# Altium schematic symbol library MCU_Microchip_PIC16.SchLib: 258 symbols (part 1 of 4)
Pins are listed as number, name and electrical type; pins without a type are passive.

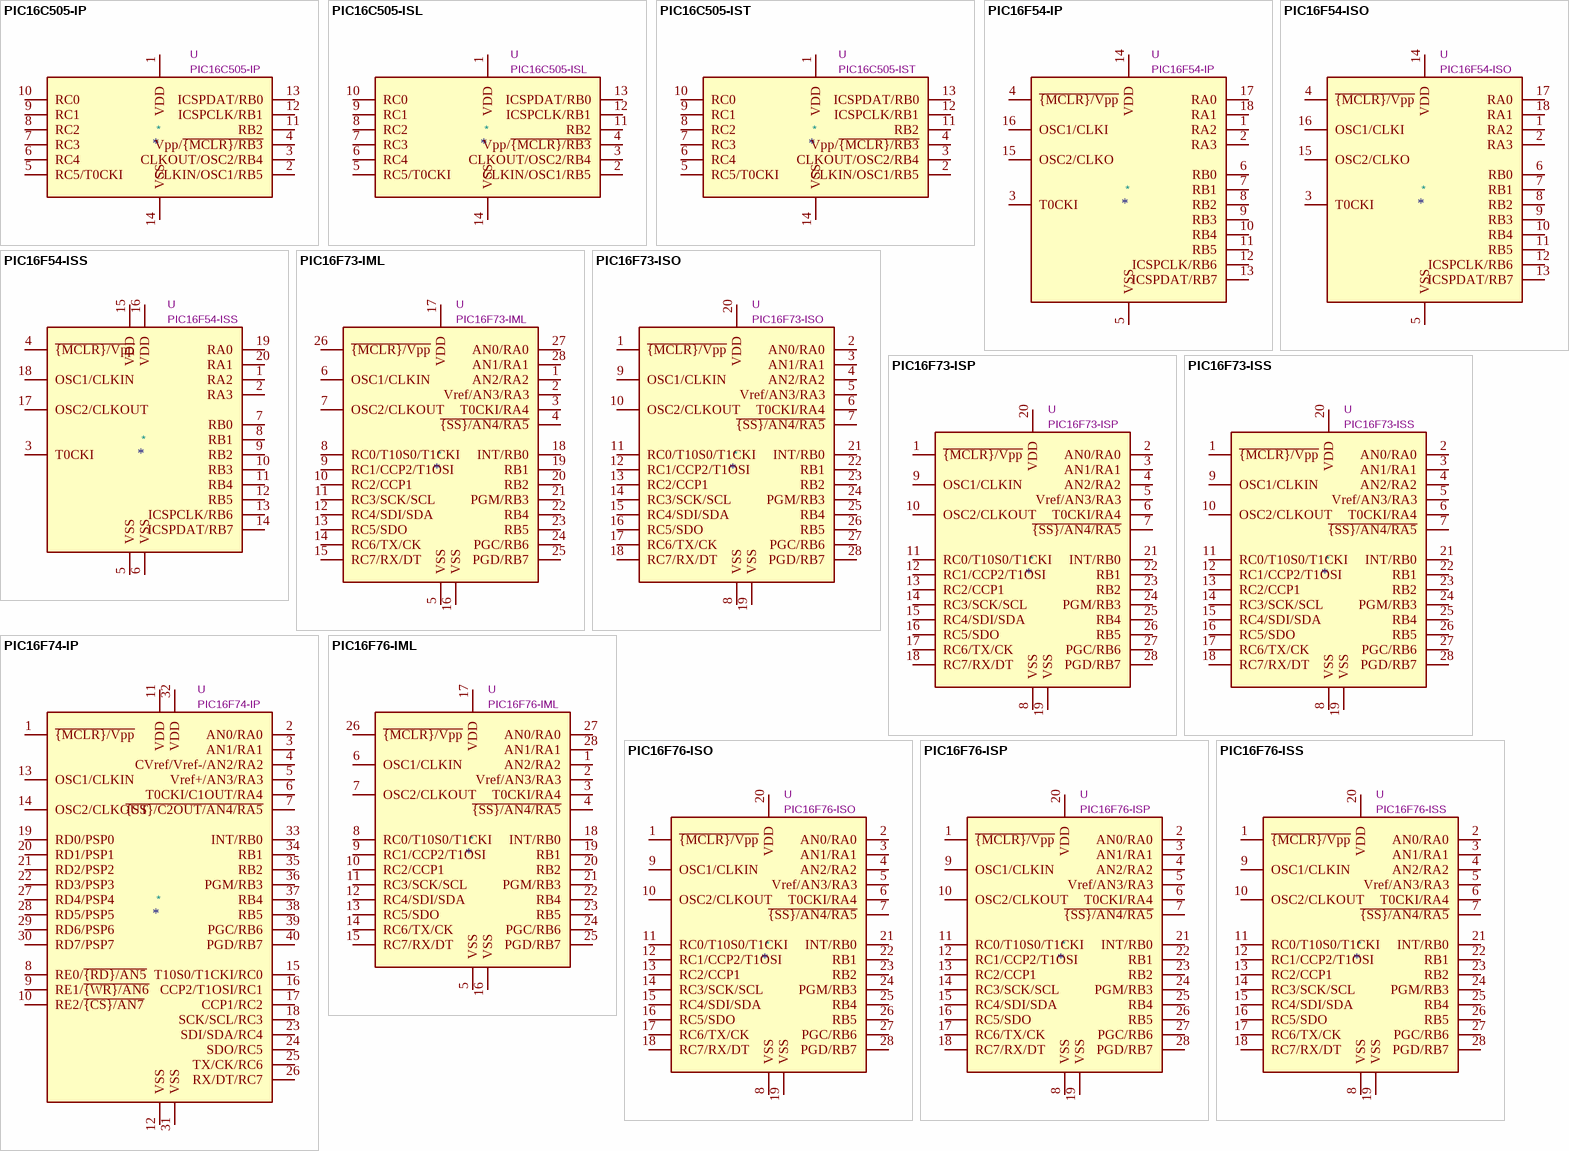
[diagram p0: symbols PIC16C505-IP to PIC16F76-ISS]

## PIC16C505-IP
designator *  value PIC16C505-IP  Reference: U
ki_keywords: ROM-Based 8bit Microcontroller; ki_description: 1024W ROM, 72B SRAM, DIP14; ki_fp_filters: PDIP* DIP*; Datasheet: http://ww1.microchip.com/downloads/en/DeviceDoc/41236E.pdf
pins: 1 VDD, 2 CLKIN/OSC1/RB5, 3 CLKOUT/OSC2/RB4, 4 Vpp/~{{MCLR}/RB3}, 5 RC5/T0CKI, 6 RC4, 7 RC3, 8 RC2, 9 RC1, 10 RC0, 11 RB2, 12 ICSPCLK/RB1, 13 ICSPDAT/RB0, 14 VSS

## PIC16C505-ISL
designator *  value PIC16C505-ISL  Reference: U
ki_keywords: ROM-Based 8bit Microcontroller; ki_description: PIC16C505, 1024W ROM, 72B SRAM, SO14; ki_fp_filters: SO* SOIC*; Datasheet: http://ww1.microchip.com/downloads/en/DeviceDoc/41236E.pdf
pins: 1 VDD, 2 CLKIN/OSC1/RB5, 3 CLKOUT/OSC2/RB4, 4 Vpp/~{{MCLR}/RB3}, 5 RC5/T0CKI, 6 RC4, 7 RC3, 8 RC2, 9 RC1, 10 RC0, 11 RB2, 12 ICSPCLK/RB1, 13 ICSPDAT/RB0, 14 VSS

## PIC16C505-IST
designator *  value PIC16C505-IST  Reference: U
ki_keywords: ROM-Based 8bit Microcontroller; ki_description: PIC16C505, 1024W ROM, 72B SRAM, TSSOP14; ki_fp_filters: TSSOP*; Datasheet: http://ww1.microchip.com/downloads/en/DeviceDoc/41236E.pdf
pins: 1 VDD, 2 CLKIN/OSC1/RB5, 3 CLKOUT/OSC2/RB4, 4 Vpp/~{{MCLR}/RB3}, 5 RC5/T0CKI, 6 RC4, 7 RC3, 8 RC2, 9 RC1, 10 RC0, 11 RB2, 12 ICSPCLK/RB1, 13 ICSPDAT/RB0, 14 VSS

## PIC16F54-IP
designator *  value PIC16F54-IP  Reference: U
ki_keywords: FLASH-Based 8-Bit CMOS Microcontroller; ki_description: 512W FLASH, 25B SRAM, DIP18; ki_fp_filters: DIP* PDIP*; Datasheet: http://ww1.microchip.com/downloads/en/DeviceDoc/41213D.pdf
pins: 1 RA2, 2 RA3, 3 T0CKI, 4 ~{{MCLR}/Vpp}, 5 VSS, 6 RB0, 7 RB1, 8 RB2, 9 RB3, 10 RB4, 11 RB5, 12 ICSPCLK/RB6, 13 ICSPDAT/RB7, 14 VDD, 15 OSC2/CLKO, 16 OSC1/CLKI, 17 RA0, 18 RA1

## PIC16F54-ISO
designator *  value PIC16F54-ISO  Reference: U
ki_keywords: FLASH-Based 8-Bit CMOS Microcontroller; ki_description: PIC16F54, 512W FLASH, 25B SRAM, SO18; ki_fp_filters: SO* SOIC*; Datasheet: http://ww1.microchip.com/downloads/en/DeviceDoc/41213D.pdf
pins: 1 RA2, 2 RA3, 3 T0CKI, 4 ~{{MCLR}/Vpp}, 5 VSS, 6 RB0, 7 RB1, 8 RB2, 9 RB3, 10 RB4, 11 RB5, 12 ICSPCLK/RB6, 13 ICSPDAT/RB7, 14 VDD, 15 OSC2/CLKO, 16 OSC1/CLKI, 17 RA0, 18 RA1

## PIC16F54-ISS
designator *  value PIC16F54-ISS  Reference: U
ki_keywords: FLASH-Based 8-Bit CMOS Microcontroller; ki_description: PIC16F54, 512W FLASH, 25B SRAM, SSOP20; ki_fp_filters: SSOP*; Datasheet: http://ww1.microchip.com/downloads/en/DeviceDoc/41213D.pdf
pins: 1 RA2, 2 RA3, 3 T0CKI, 4 ~{{MCLR}/Vpp}, 5 VSS, 6 VSS, 7 RB0, 8 RB1, 9 RB2, 10 RB3, 11 RB4, 12 RB5, 13 ICSPCLK/RB6, 14 ICSPDAT/RB7, 15 VDD, 16 VDD, 17 OSC2/CLKOUT, 18 OSC1/CLKIN, 19 RA0, 20 RA1

## PIC16F73-IML
designator *  value PIC16F73-IML  Reference: U
ki_keywords: Flash-Based 8-Bit Microcontroller; ki_description: PIC16F73, 4K Flash, 192B SRAM, ADC, PWM, MLF28; ki_fp_filters: MLF*; Datasheet: http://ww1.microchip.com/downloads/en/DeviceDoc/30325b.pdf
pins: 1 AN2/RA2, 2 Vref/AN3/RA3, 3 T0CKI/RA4, 4 ~{{SS}/AN4/RA5}, 5 VSS, 6 OSC1/CLKIN, 7 OSC2/CLKOUT, 8 RC0/T10S0/T1CKI, 9 RC1/CCP2/T1OSI, 10 RC2/CCP1, 11 RC3/SCK/SCL, 12 RC4/SDI/SDA, 13 RC5/SDO, 14 RC6/TX/CK, 15 RC7/RX/DT, 16 VSS, 17 VDD, 18 INT/RB0, 19 RB1, 20 RB2, 21 PGM/RB3, 22 RB4, 23 RB5, 24 PGC/RB6, 25 PGD/RB7, 26 ~{{MCLR}/Vpp}, 27 AN0/RA0, 28 AN1/RA1

## PIC16F73-ISO
designator *  value PIC16F73-ISO  Reference: U
ki_keywords: Flash-Based 8-Bit Microcontroller; ki_description: PIC16F73, 4K Flash, 192B SRAM, ADC, PWM, SOIC28; ki_fp_filters: SO*; Datasheet: http://ww1.microchip.com/downloads/en/DeviceDoc/30325b.pdf
pins: 1 ~{{MCLR}/Vpp}, 2 AN0/RA0, 3 AN1/RA1, 4 AN2/RA2, 5 Vref/AN3/RA3, 6 T0CKI/RA4, 7 ~{{SS}/AN4/RA5}, 8 VSS, 9 OSC1/CLKIN, 10 OSC2/CLKOUT, 11 RC0/T10S0/T1CKI, 12 RC1/CCP2/T1OSI, 13 RC2/CCP1, 14 RC3/SCK/SCL, 15 RC4/SDI/SDA, 16 RC5/SDO, 17 RC6/TX/CK, 18 RC7/RX/DT, 19 VSS, 20 VDD, 21 INT/RB0, 22 RB1, 23 RB2, 24 PGM/RB3, 25 RB4, 26 RB5, 27 PGC/RB6, 28 PGD/RB7

## PIC16F73-ISP
designator *  value PIC16F73-ISP  Reference: U
ki_keywords: Flash-Based 8-Bit Microcontroller; ki_description: PIC16F73, 4K Flash, 192B SRAM, ADC, PWM, SDIP28; ki_fp_filters: DIP* PDIP*; Datasheet: http://ww1.microchip.com/downloads/en/DeviceDoc/30325b.pdf
pins: 1 ~{{MCLR}/Vpp}, 2 AN0/RA0, 3 AN1/RA1, 4 AN2/RA2, 5 Vref/AN3/RA3, 6 T0CKI/RA4, 7 ~{{SS}/AN4/RA5}, 8 VSS, 9 OSC1/CLKIN, 10 OSC2/CLKOUT, 11 RC0/T10S0/T1CKI, 12 RC1/CCP2/T1OSI, 13 RC2/CCP1, 14 RC3/SCK/SCL, 15 RC4/SDI/SDA, 16 RC5/SDO, 17 RC6/TX/CK, 18 RC7/RX/DT, 19 VSS, 20 VDD, 21 INT/RB0, 22 RB1, 23 RB2, 24 PGM/RB3, 25 RB4, 26 RB5, 27 PGC/RB6, 28 PGD/RB7

## PIC16F73-ISS
designator *  value PIC16F73-ISS  Reference: U
ki_keywords: Flash-Based 8-Bit Microcontroller; ki_description: PIC16F73, 4K Flash, 192B SRAM, ADC, PWM, SSOP28; ki_fp_filters: SSOP*; Datasheet: http://ww1.microchip.com/downloads/en/DeviceDoc/30325b.pdf
pins: 1 ~{{MCLR}/Vpp}, 2 AN0/RA0, 3 AN1/RA1, 4 AN2/RA2, 5 Vref/AN3/RA3, 6 T0CKI/RA4, 7 ~{{SS}/AN4/RA5}, 8 VSS, 9 OSC1/CLKIN, 10 OSC2/CLKOUT, 11 RC0/T10S0/T1CKI, 12 RC1/CCP2/T1OSI, 13 RC2/CCP1, 14 RC3/SCK/SCL, 15 RC4/SDI/SDA, 16 RC5/SDO, 17 RC6/TX/CK, 18 RC7/RX/DT, 19 VSS, 20 VDD, 21 INT/RB0, 22 RB1, 23 RB2, 24 PGM/RB3, 25 RB4, 26 RB5, 27 PGC/RB6, 28 PGD/RB7

## PIC16F74-IP
designator *  value PIC16F74-IP  Reference: U
ki_keywords: Flash-Based 8-Bit Microcontroller; ki_description: 4K Flash, 192B SRAM, ADC, PWM, DIP40; ki_fp_filters: DIP* PDIP*; Datasheet: http://ww1.microchip.com/downloads/en/DeviceDoc/30325b.pdf
pins: 1 ~{{MCLR}/Vpp}, 2 AN0/RA0, 3 AN1/RA1, 4 CVref/Vref-/AN2/RA2, 5 Vref+/AN3/RA3, 6 T0CKI/C1OUT/RA4, 7 ~{{SS}/C2OUT/AN4/RA5}, 8 RE0/~{{RD}/AN5}, 9 RE1/~{{WR}/AN6}, 10 RE2/~{{CS}/AN7}, 11 VDD, 12 VSS, 13 OSC1/CLKIN, 14 OSC2/CLKOUT, 15 T10S0/T1CKI/RC0, 16 CCP2/T1OSI/RC1, 17 CCP1/RC2, 18 SCK/SCL/RC3, 19 RD0/PSP0, 20 RD1/PSP1, 21 RD2/PSP2, 22 RD3/PSP3, 23 SDI/SDA/RC4, 24 SDO/RC5, 25 TX/CK/RC6, 26 RX/DT/RC7, 27 RD4/PSP4, 28 RD5/PSP5, 29 RD6/PSP6, 30 RD7/PSP7, 31 VSS, 32 VDD, 33 INT/RB0, 34 RB1, 35 RB2, 36 PGM/RB3, 37 RB4, 38 RB5, 39 PGC/RB6, 40 PGD/RB7

## PIC16F76-IML
designator *  value PIC16F76-IML  Reference: U
ki_keywords: Flash-Based 8-Bit Microcontroller; ki_description: PIC16F76, 8K Flash, 368B SRAM, ADC, PWM, MLF28; ki_fp_filters: MLF*; Datasheet: http://ww1.microchip.com/downloads/en/DeviceDoc/30325b.pdf
pins: 1 AN2/RA2, 2 Vref/AN3/RA3, 3 T0CKI/RA4, 4 ~{{SS}/AN4/RA5}, 5 VSS, 6 OSC1/CLKIN, 7 OSC2/CLKOUT, 8 RC0/T10S0/T1CKI, 9 RC1/CCP2/T1OSI, 10 RC2/CCP1, 11 RC3/SCK/SCL, 12 RC4/SDI/SDA, 13 RC5/SDO, 14 RC6/TX/CK, 15 RC7/RX/DT, 16 VSS, 17 VDD, 18 INT/RB0, 19 RB1, 20 RB2, 21 PGM/RB3, 22 RB4, 23 RB5, 24 PGC/RB6, 25 PGD/RB7, 26 ~{{MCLR}/Vpp}, 27 AN0/RA0, 28 AN1/RA1

## PIC16F76-ISO
designator *  value PIC16F76-ISO  Reference: U
ki_keywords: Flash-Based 8-Bit Microcontroller; ki_description: PIC16F76, 8K Flash, 368B SRAM, ADC, PWM, SOIC28; ki_fp_filters: SO*; Datasheet: http://ww1.microchip.com/downloads/en/DeviceDoc/30325b.pdf
pins: 1 ~{{MCLR}/Vpp}, 2 AN0/RA0, 3 AN1/RA1, 4 AN2/RA2, 5 Vref/AN3/RA3, 6 T0CKI/RA4, 7 ~{{SS}/AN4/RA5}, 8 VSS, 9 OSC1/CLKIN, 10 OSC2/CLKOUT, 11 RC0/T10S0/T1CKI, 12 RC1/CCP2/T1OSI, 13 RC2/CCP1, 14 RC3/SCK/SCL, 15 RC4/SDI/SDA, 16 RC5/SDO, 17 RC6/TX/CK, 18 RC7/RX/DT, 19 VSS, 20 VDD, 21 INT/RB0, 22 RB1, 23 RB2, 24 PGM/RB3, 25 RB4, 26 RB5, 27 PGC/RB6, 28 PGD/RB7

## PIC16F76-ISP
designator *  value PIC16F76-ISP  Reference: U
ki_keywords: Flash-Based 8-Bit Microcontroller; ki_description: PIC16F76, 8K Flash, 368B SRAM, ADC, PWM, SDIP28; ki_fp_filters: DIP* PDIP*; Datasheet: http://ww1.microchip.com/downloads/en/DeviceDoc/30325b.pdf
pins: 1 ~{{MCLR}/Vpp}, 2 AN0/RA0, 3 AN1/RA1, 4 AN2/RA2, 5 Vref/AN3/RA3, 6 T0CKI/RA4, 7 ~{{SS}/AN4/RA5}, 8 VSS, 9 OSC1/CLKIN, 10 OSC2/CLKOUT, 11 RC0/T10S0/T1CKI, 12 RC1/CCP2/T1OSI, 13 RC2/CCP1, 14 RC3/SCK/SCL, 15 RC4/SDI/SDA, 16 RC5/SDO, 17 RC6/TX/CK, 18 RC7/RX/DT, 19 VSS, 20 VDD, 21 INT/RB0, 22 RB1, 23 RB2, 24 PGM/RB3, 25 RB4, 26 RB5, 27 PGC/RB6, 28 PGD/RB7

## PIC16F76-ISS
designator *  value PIC16F76-ISS  Reference: U
ki_keywords: Flash-Based 8-Bit Microcontroller; ki_description: PIC16F76, 8K Flash, 368B SRAM, ADC, PWM, SSOP28; ki_fp_filters: SSOP*; Datasheet: http://ww1.microchip.com/downloads/en/DeviceDoc/30325b.pdf
pins: 1 ~{{MCLR}/Vpp}, 2 AN0/RA0, 3 AN1/RA1, 4 AN2/RA2, 5 Vref/AN3/RA3, 6 T0CKI/RA4, 7 ~{{SS}/AN4/RA5}, 8 VSS, 9 OSC1/CLKIN, 10 OSC2/CLKOUT, 11 RC0/T10S0/T1CKI, 12 RC1/CCP2/T1OSI, 13 RC2/CCP1, 14 RC3/SCK/SCL, 15 RC4/SDI/SDA, 16 RC5/SDO, 17 RC6/TX/CK, 18 RC7/RX/DT, 19 VSS, 20 VDD, 21 INT/RB0, 22 RB1, 23 RB2, 24 PGM/RB3, 25 RB4, 26 RB5, 27 PGC/RB6, 28 PGD/RB7

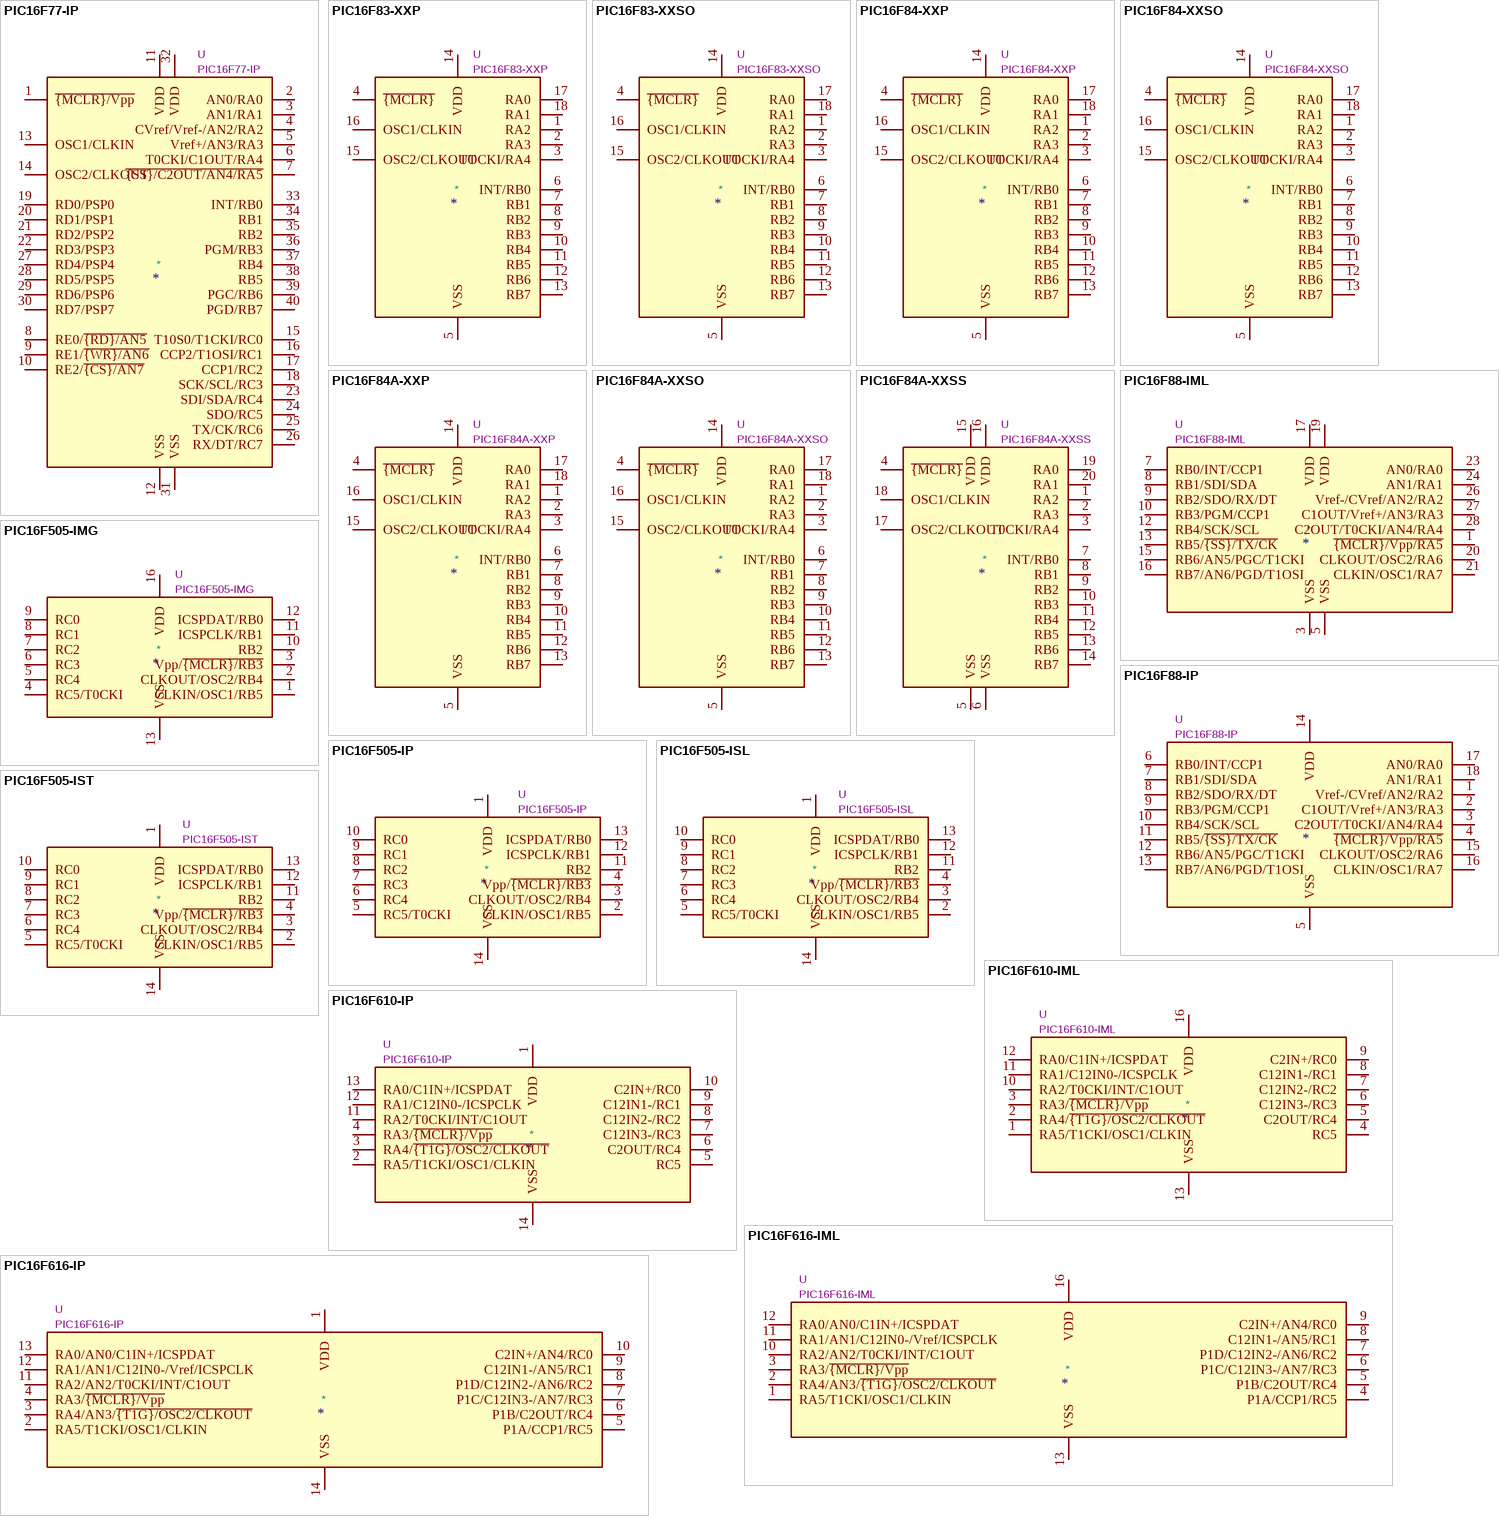
[diagram p1: symbols PIC16F77-IP to PIC16F616-IP]

## PIC16F77-IP
designator *  value PIC16F77-IP  Reference: U
ki_keywords: Flash-Based 8-Bit Microcontroller; ki_description: 8K Flash, 368B SRAM, ADC, PWM, DIP40; ki_fp_filters: DIP* PDIP*; Datasheet: http://ww1.microchip.com/downloads/en/DeviceDoc/30325b.pdf
pins: 1 ~{{MCLR}/Vpp}, 2 AN0/RA0, 3 AN1/RA1, 4 CVref/Vref-/AN2/RA2, 5 Vref+/AN3/RA3, 6 T0CKI/C1OUT/RA4, 7 ~{{SS}/C2OUT/AN4/RA5}, 8 RE0/~{{RD}/AN5}, 9 RE1/~{{WR}/AN6}, 10 RE2/~{{CS}/AN7}, 11 VDD, 12 VSS, 13 OSC1/CLKIN, 14 OSC2/CLKOUT, 15 T10S0/T1CKI/RC0, 16 CCP2/T1OSI/RC1, 17 CCP1/RC2, 18 SCK/SCL/RC3, 19 RD0/PSP0, 20 RD1/PSP1, 21 RD2/PSP2, 22 RD3/PSP3, 23 SDI/SDA/RC4, 24 SDO/RC5, 25 TX/CK/RC6, 26 RX/DT/RC7, 27 RD4/PSP4, 28 RD5/PSP5, 29 RD6/PSP6, 30 RD7/PSP7, 31 VSS, 32 VDD, 33 INT/RB0, 34 RB1, 35 RB2, 36 PGM/RB3, 37 RB4, 38 RB5, 39 PGC/RB6, 40 PGD/RB7

## PIC16F83-XXP
designator *  value PIC16F83-XXP  Reference: U
ki_keywords: Flash-Based 8-Bit Microcontroller; ki_description: PIC16F83, 512B Flash, 36B SRAM, 64B EEPROM, DIP18; ki_fp_filters: DIP* PDIP*; Datasheet: http://ww1.microchip.com/downloads/en/DeviceDoc/30430c.pdf
pins: 1 RA2, 2 RA3, 3 TOCKI/RA4, 4 ~{{MCLR}}, 5 VSS, 6 INT/RB0, 7 RB1, 8 RB2, 9 RB3, 10 RB4, 11 RB5, 12 RB6, 13 RB7, 14 VDD, 15 OSC2/CLKOUT, 16 OSC1/CLKIN, 17 RA0, 18 RA1

## PIC16F83-XXSO
designator *  value PIC16F83-XXSO  Reference: U
ki_keywords: Flash-Based 8-Bit Microcontroller; ki_description: PIC16F83, 512B Flash, 36B SRAM, 64B EEPROM, SOIC18; ki_fp_filters: SO*; Datasheet: http://ww1.microchip.com/downloads/en/DeviceDoc/30430c.pdf
pins: 1 RA2, 2 RA3, 3 TOCKI/RA4, 4 ~{{MCLR}}, 5 VSS, 6 INT/RB0, 7 RB1, 8 RB2, 9 RB3, 10 RB4, 11 RB5, 12 RB6, 13 RB7, 14 VDD, 15 OSC2/CLKOUT, 16 OSC1/CLKIN, 17 RA0, 18 RA1

## PIC16F84-XXP
designator *  value PIC16F84-XXP  Reference: U
ki_keywords: Flash-Based 8-Bit Microcontroller; ki_description: PIC16F84, 1K Flash, 68B SRAM, 64B EEPROM, DIP18; ki_fp_filters: DIP* PDIP*; Datasheet: http://ww1.microchip.com/downloads/en/DeviceDoc/30430c.pdf
pins: 1 RA2, 2 RA3, 3 TOCKI/RA4, 4 ~{{MCLR}}, 5 VSS, 6 INT/RB0, 7 RB1, 8 RB2, 9 RB3, 10 RB4, 11 RB5, 12 RB6, 13 RB7, 14 VDD, 15 OSC2/CLKOUT, 16 OSC1/CLKIN, 17 RA0, 18 RA1

## PIC16F84-XXSO
designator *  value PIC16F84-XXSO  Reference: U
ki_keywords: Flash-Based 8-Bit Microcontroller; ki_description: PIC16F84, 1KB Flash, 68B SRAM, 64B EEPROM, SOIC18; ki_fp_filters: SO*; Datasheet: http://ww1.microchip.com/downloads/en/DeviceDoc/30430c.pdf
pins: 1 RA2, 2 RA3, 3 TOCKI/RA4, 4 ~{{MCLR}}, 5 VSS, 6 INT/RB0, 7 RB1, 8 RB2, 9 RB3, 10 RB4, 11 RB5, 12 RB6, 13 RB7, 14 VDD, 15 OSC2/CLKOUT, 16 OSC1/CLKIN, 17 RA0, 18 RA1

## PIC16F84A-XXP
designator *  value PIC16F84A-XXP  Reference: U
ki_keywords: Flash-Based 8-Bit Microcontroller; ki_description: PIC16F84A, 1K Flash, 68B SRAM, 64B EEPROM, DIP18; ki_fp_filters: DIP* PDIP*; Datasheet: http://ww1.microchip.com/downloads/en/devicedoc/35007b.pdf
pins: 1 RA2, 2 RA3, 3 TOCKI/RA4, 4 ~{{MCLR}}, 5 VSS, 6 INT/RB0, 7 RB1, 8 RB2, 9 RB3, 10 RB4, 11 RB5, 12 RB6, 13 RB7, 14 VDD, 15 OSC2/CLKOUT, 16 OSC1/CLKIN, 17 RA0, 18 RA1

## PIC16F84A-XXSO
designator *  value PIC16F84A-XXSO  Reference: U
ki_keywords: Flash-Based 8-Bit Microcontroller; ki_description: PIC16F84A, 1KB Flash, 68B SRAM, 64B EEPROM, SOIC18; ki_fp_filters: SO*; Datasheet: http://ww1.microchip.com/downloads/en/devicedoc/35007b.pdf
pins: 1 RA2, 2 RA3, 3 TOCKI/RA4, 4 ~{{MCLR}}, 5 VSS, 6 INT/RB0, 7 RB1, 8 RB2, 9 RB3, 10 RB4, 11 RB5, 12 RB6, 13 RB7, 14 VDD, 15 OSC2/CLKOUT, 16 OSC1/CLKIN, 17 RA0, 18 RA1

## PIC16F84A-XXSS
designator *  value PIC16F84A-XXSS  Reference: U
ki_keywords: Flash-Based 8-Bit Microcontroller; ki_description: PIC16F84A, 1KB Flash, 68B SRAM, 64B EEPROM, SSOP18; ki_fp_filters: SSOP*; Datasheet: http://ww1.microchip.com/downloads/en/devicedoc/35007b.pdf
pins: 1 RA2, 2 RA3, 3 T0CKI/RA4, 4 ~{{MCLR}}, 5 VSS, 6 VSS, 7 INT/RB0, 8 RB1, 9 RB2, 10 RB3, 11 RB4, 12 RB5, 13 RB6, 14 RB7, 15 VDD, 16 VDD, 17 OSC2/CLKOUT, 18 OSC1/CLKIN, 19 RA0, 20 RA1

## PIC16F88-IML
designator *  value PIC16F88-IML  Reference: U
ki_keywords: FLASH-Based 8-Bit CMOS Microcontroller; ki_description: PIC16F88, 4096W Flash, 368B SRAM, 256B EEPROM, QFN-28; ki_fp_filters: DIP* PDIP*; Datasheet: http://ww1.microchip.com/downloads/en/DeviceDoc/30487D.pdf
pins: 1 ~{{MCLR}/Vpp/RA5}, 3 VSS, 5 VSS, 7 RB0/INT/CCP1, 8 RB1/SDI/SDA, 9 RB2/SDO/RX/DT, 10 RB3/PGM/CCP1, 12 RB4/SCK/SCL, 13 RB5/~{{SS}/TX/CK}, 15 RB6/AN5/PGC/T1CKI, 16 RB7/AN6/PGD/T1OSI, 17 VDD, 19 VDD, 20 CLKOUT/OSC2/RA6, 21 CLKIN/OSC1/RA7, 23 AN0/RA0, 24 AN1/RA1, 26 Vref-/CVref/AN2/RA2, 27 C1OUT/Vref+/AN3/RA3, 28 C2OUT/T0CKI/AN4/RA4

## PIC16F88-IP
designator *  value PIC16F88-IP  Reference: U
ki_keywords: FLASH-Based 8-Bit CMOS Microcontroller; ki_description: PIC16F88, 4096W Flash, 368B SRAM, 256B EEPROM, DIP18; ki_fp_filters: DIP* PDIP*; Datasheet: http://ww1.microchip.com/downloads/en/DeviceDoc/30487D.pdf
pins: 1 Vref-/CVref/AN2/RA2, 2 C1OUT/Vref+/AN3/RA3, 3 C2OUT/T0CKI/AN4/RA4, 4 ~{{MCLR}/Vpp/RA5}, 5 VSS, 6 RB0/INT/CCP1, 7 RB1/SDI/SDA, 8 RB2/SDO/RX/DT, 9 RB3/PGM/CCP1, 10 RB4/SCK/SCL, 11 RB5/~{{SS}/TX/CK}, 12 RB6/AN5/PGC/T1CKI, 13 RB7/AN6/PGD/T1OSI, 14 VDD, 15 CLKOUT/OSC2/RA6, 16 CLKIN/OSC1/RA7, 17 AN0/RA0, 18 AN1/RA1

## PIC16F505-IMG
designator *  value PIC16F505-IMG  Reference: U
ki_keywords: FLASH-Based 8bit Microcontroller; ki_description: PIC16F505, 1024W FLASH, 72B SRAM, QFN16; ki_fp_filters: QFN*; Datasheet: http://ww1.microchip.com/downloads/en/DeviceDoc/41236E.pdf
pins: 1 CLKIN/OSC1/RB5, 2 CLKOUT/OSC2/RB4, 3 Vpp/~{{MCLR}/RB3}, 4 RC5/T0CKI, 5 RC4, 6 RC3, 7 RC2, 8 RC1, 9 RC0, 10 RB2, 11 ICSPCLK/RB1, 12 ICSPDAT/RB0, 13 VSS, 16 VDD

## PIC16F505-IP
designator *  value PIC16F505-IP  Reference: U
ki_keywords: FLASH-Based 8bit Microcontroller; ki_description: 1024W FLASH, 72B SRAM, DIP14; ki_fp_filters: PDIP* DIP*; Datasheet: http://ww1.microchip.com/downloads/en/DeviceDoc/41236E.pdf
pins: 1 VDD, 2 CLKIN/OSC1/RB5, 3 CLKOUT/OSC2/RB4, 4 Vpp/~{{MCLR}/RB3}, 5 RC5/T0CKI, 6 RC4, 7 RC3, 8 RC2, 9 RC1, 10 RC0, 11 RB2, 12 ICSPCLK/RB1, 13 ICSPDAT/RB0, 14 VSS

## PIC16F505-ISL
designator *  value PIC16F505-ISL  Reference: U
ki_keywords: FLASH-Based 8bit Microcontroller; ki_description: PIC16F505, 1024W FLASH, 72B SRAM, SO14; ki_fp_filters: SO* SOIC*; Datasheet: http://ww1.microchip.com/downloads/en/DeviceDoc/41236E.pdf
pins: 1 VDD, 2 CLKIN/OSC1/RB5, 3 CLKOUT/OSC2/RB4, 4 Vpp/~{{MCLR}/RB3}, 5 RC5/T0CKI, 6 RC4, 7 RC3, 8 RC2, 9 RC1, 10 RC0, 11 RB2, 12 ICSPCLK/RB1, 13 ICSPDAT/RB0, 14 VSS

## PIC16F505-IST
designator *  value PIC16F505-IST  Reference: U
ki_keywords: FLASH-Based 8bit Microcontroller; ki_description: PIC16F505, 1024W FLASH, 72B SRAM, TSSOP14; ki_fp_filters: TSSOP*; Datasheet: http://ww1.microchip.com/downloads/en/DeviceDoc/41236E.pdf
pins: 1 VDD, 2 CLKIN/OSC1/RB5, 3 CLKOUT/OSC2/RB4, 4 Vpp/~{{MCLR}/RB3}, 5 RC5/T0CKI, 6 RC4, 7 RC3, 8 RC2, 9 RC1, 10 RC0, 11 RB2, 12 ICSPCLK/RB1, 13 ICSPDAT/RB0, 14 VSS

## PIC16F610-IML
designator *  value PIC16F610-IML  Reference: U
ki_keywords: FLASH-Based 8-Bit CMOS Microcontroller Low Power; ki_description: PIC16F610, 1024W FLASH, 64B SRAM, QFN-16; ki_fp_filters: QFN*; Datasheet: http://ww1.microchip.com/downloads/en/DeviceDoc/41288F.pdf
pins: 1 RA5/T1CKI/OSC1/CLKIN, 2 RA4/~{{T1G}/OSC2/CLKOUT}, 3 RA3/~{{MCLR}/Vpp}, 4 RC5, 5 C2OUT/RC4, 6 C12IN3-/RC3, 7 C12IN2-/RC2, 8 C12IN1-/RC1, 9 C2IN+/RC0, 10 RA2/T0CKI/INT/C1OUT, 11 RA1/C12IN0-/ICSPCLK, 12 RA0/C1IN+/ICSPDAT, 13 VSS, 16 VDD

## PIC16F610-IP
designator *  value PIC16F610-IP  Reference: U
ki_keywords: FLASH-Based 8-Bit CMOS Microcontroller Low Power; ki_description: 1024W FLASH, 64B SRAM, PDIP-14; ki_fp_filters: DIP* PDIP* SO*; Datasheet: http://ww1.microchip.com/downloads/en/DeviceDoc/41288F.pdf
pins: 1 VDD, 2 RA5/T1CKI/OSC1/CLKIN, 3 RA4/~{{T1G}/OSC2/CLKOUT}, 4 RA3/~{{MCLR}/Vpp}, 5 RC5, 6 C2OUT/RC4, 7 C12IN3-/RC3, 8 C12IN2-/RC2, 9 C12IN1-/RC1, 10 C2IN+/RC0, 11 RA2/T0CKI/INT/C1OUT, 12 RA1/C12IN0-/ICSPCLK, 13 RA0/C1IN+/ICSPDAT, 14 VSS

## PIC16F616-IML
designator *  value PIC16F616-IML  Reference: U
ki_keywords: FLASH-Based 8-Bit CMOS Microcontroller Low Power; ki_description: PIC16F616, 2048W FLASH, 128B SRAM, QFN-16; ki_fp_filters: QFN*; Datasheet: http://ww1.microchip.com/downloads/en/DeviceDoc/41288F.pdf
pins: 1 RA5/T1CKI/OSC1/CLKIN, 2 RA4/AN3/~{{T1G}/OSC2/CLKOUT}, 3 RA3/~{{MCLR}/Vpp}, 4 P1A/CCP1/RC5, 5 P1B/C2OUT/RC4, 6 P1C/C12IN3-/AN7/RC3, 7 P1D/C12IN2-/AN6/RC2, 8 C12IN1-/AN5/RC1, 9 C2IN+/AN4/RC0, 10 RA2/AN2/T0CKI/INT/C1OUT, 11 RA1/AN1/C12IN0-/Vref/ICSPCLK, 12 RA0/AN0/C1IN+/ICSPDAT, 13 VSS, 16 VDD

## PIC16F616-IP
designator *  value PIC16F616-IP  Reference: U
ki_keywords: FLASH-Based 8-Bit CMOS Microcontroller Low Power; ki_description: 2048W FLASH, 128B SRAM, PDIP-14; ki_fp_filters: DIP* PDIP* SO*; Datasheet: http://ww1.microchip.com/downloads/en/DeviceDoc/41288F.pdf
pins: 1 VDD, 2 RA5/T1CKI/OSC1/CLKIN, 3 RA4/AN3/~{{T1G}/OSC2/CLKOUT}, 4 RA3/~{{MCLR}/Vpp}, 5 P1A/CCP1/RC5, 6 P1B/C2OUT/RC4, 7 P1C/C12IN3-/AN7/RC3, 8 P1D/C12IN2-/AN6/RC2, 9 C12IN1-/AN5/RC1, 10 C2IN+/AN4/RC0, 11 RA2/AN2/T0CKI/INT/C1OUT, 12 RA1/AN1/C12IN0-/Vref/ICSPCLK, 13 RA0/AN0/C1IN+/ICSPDAT, 14 VSS

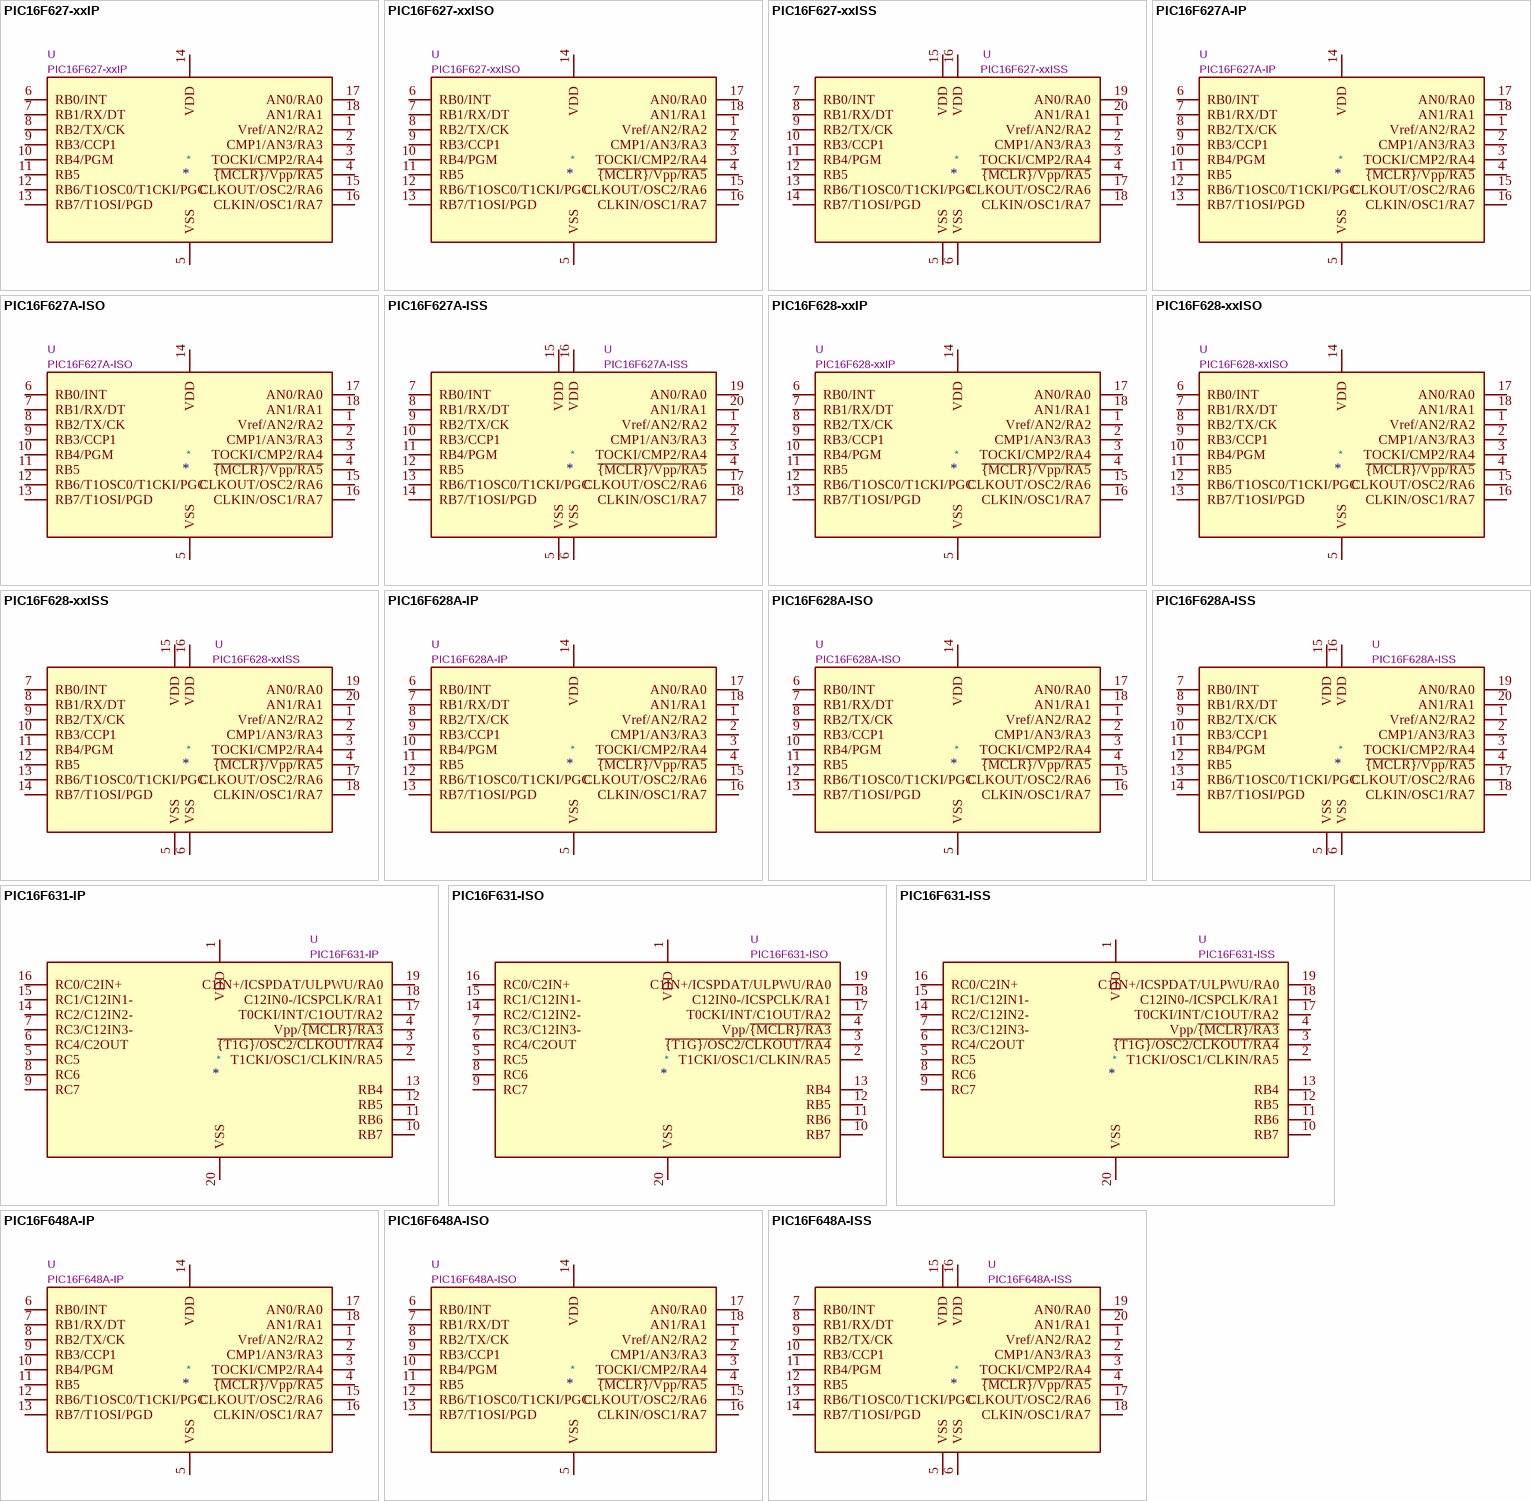
[diagram p2: symbols PIC16F627-xxIP to PIC16F648A-ISS]

## PIC16F627-xxIP
designator *  value PIC16F627-xxIP  Reference: U
ki_keywords: FLASH-Based 8-Bit CMOS Microcontroller; ki_description: 1024W Flash, 224B SRAM, 128B EEPROM, DIP18; ki_fp_filters: DIP* PDIP*; Datasheet: http://ww1.microchip.com/downloads/en/DeviceDoc/40300c.pdf
pins: 1 Vref/AN2/RA2, 2 CMP1/AN3/RA3, 3 TOCKI/CMP2/RA4, 4 ~{{MCLR}/Vpp/RA5}, 5 VSS, 6 RB0/INT, 7 RB1/RX/DT, 8 RB2/TX/CK, 9 RB3/CCP1, 10 RB4/PGM, 11 RB5, 12 RB6/T1OSC0/T1CKI/PGC, 13 RB7/T1OSI/PGD, 14 VDD, 15 CLKOUT/OSC2/RA6, 16 CLKIN/OSC1/RA7, 17 AN0/RA0, 18 AN1/RA1

## PIC16F627-xxISO
designator *  value PIC16F627-xxISO  Reference: U
ki_keywords: FLASH-Based 8-Bit CMOS Microcontroller; ki_description: 1024W Flash, 224B SRAM, 128B EEPROM, SO18; ki_fp_filters: SO*; Datasheet: http://ww1.microchip.com/downloads/en/DeviceDoc/40300c.pdf
pins: 1 Vref/AN2/RA2, 2 CMP1/AN3/RA3, 3 TOCKI/CMP2/RA4, 4 ~{{MCLR}/Vpp/RA5}, 5 VSS, 6 RB0/INT, 7 RB1/RX/DT, 8 RB2/TX/CK, 9 RB3/CCP1, 10 RB4/PGM, 11 RB5, 12 RB6/T1OSC0/T1CKI/PGC, 13 RB7/T1OSI/PGD, 14 VDD, 15 CLKOUT/OSC2/RA6, 16 CLKIN/OSC1/RA7, 17 AN0/RA0, 18 AN1/RA1

## PIC16F627-xxISS
designator *  value PIC16F627-xxISS  Reference: U
ki_keywords: FLASH-Based 8-Bit CMOS Microcontroller; ki_description: 1024W Flash, 224B SRAM, 128B EEPROM, SSOP20; ki_fp_filters: SSOP*; Datasheet: http://ww1.microchip.com/downloads/en/DeviceDoc/40300c.pdf
pins: 1 Vref/AN2/RA2, 2 CMP1/AN3/RA3, 3 TOCKI/CMP2/RA4, 4 ~{{MCLR}/Vpp/RA5}, 5 VSS, 6 VSS, 7 RB0/INT, 8 RB1/RX/DT, 9 RB2/TX/CK, 10 RB3/CCP1, 11 RB4/PGM, 12 RB5, 13 RB6/T1OSC0/T1CKI/PGC, 14 RB7/T1OSI/PGD, 15 VDD, 16 VDD, 17 CLKOUT/OSC2/RA6, 18 CLKIN/OSC1/RA7, 19 AN0/RA0, 20 AN1/RA1

## PIC16F627A-IP
designator *  value PIC16F627A-IP  Reference: U
ki_keywords: FLASH-Based 8-Bit CMOS Microcontroller; ki_description: 1024W Flash, 224B SRAM, 128B EEPROM, DIP18; ki_fp_filters: DIP* PDIP*; Datasheet: http://ww1.microchip.com/downloads/en/DeviceDoc/40300c.pdf
pins: 1 Vref/AN2/RA2, 2 CMP1/AN3/RA3, 3 TOCKI/CMP2/RA4, 4 ~{{MCLR}/Vpp/RA5}, 5 VSS, 6 RB0/INT, 7 RB1/RX/DT, 8 RB2/TX/CK, 9 RB3/CCP1, 10 RB4/PGM, 11 RB5, 12 RB6/T1OSC0/T1CKI/PGC, 13 RB7/T1OSI/PGD, 14 VDD, 15 CLKOUT/OSC2/RA6, 16 CLKIN/OSC1/RA7, 17 AN0/RA0, 18 AN1/RA1

## PIC16F627A-ISO
designator *  value PIC16F627A-ISO  Reference: U
ki_keywords: FLASH-Based 8-Bit CMOS Microcontroller; ki_description: PIC16F627A, 1024W Flash, 224B SRAM, 128B EEPROM, SO18; ki_fp_filters: SO*; Datasheet: http://ww1.microchip.com/downloads/en/DeviceDoc/40300c.pdf
pins: 1 Vref/AN2/RA2, 2 CMP1/AN3/RA3, 3 TOCKI/CMP2/RA4, 4 ~{{MCLR}/Vpp/RA5}, 5 VSS, 6 RB0/INT, 7 RB1/RX/DT, 8 RB2/TX/CK, 9 RB3/CCP1, 10 RB4/PGM, 11 RB5, 12 RB6/T1OSC0/T1CKI/PGC, 13 RB7/T1OSI/PGD, 14 VDD, 15 CLKOUT/OSC2/RA6, 16 CLKIN/OSC1/RA7, 17 AN0/RA0, 18 AN1/RA1

## PIC16F627A-ISS
designator *  value PIC16F627A-ISS  Reference: U
ki_keywords: FLASH-Based 8-Bit CMOS Microcontroller; ki_description: PIC16F627A, 1024W Flash, 224B SRAM, 128B EEPROM, SSOP20; ki_fp_filters: SSOP*; Datasheet: http://ww1.microchip.com/downloads/en/DeviceDoc/40044G.pdf
pins: 1 Vref/AN2/RA2, 2 CMP1/AN3/RA3, 3 TOCKI/CMP2/RA4, 4 ~{{MCLR}/Vpp/RA5}, 5 VSS, 6 VSS, 7 RB0/INT, 8 RB1/RX/DT, 9 RB2/TX/CK, 10 RB3/CCP1, 11 RB4/PGM, 12 RB5, 13 RB6/T1OSC0/T1CKI/PGC, 14 RB7/T1OSI/PGD, 15 VDD, 16 VDD, 17 CLKOUT/OSC2/RA6, 18 CLKIN/OSC1/RA7, 19 AN0/RA0, 20 AN1/RA1

## PIC16F628-xxIP
designator *  value PIC16F628-xxIP  Reference: U
ki_keywords: FLASH-Based 8-Bit CMOS Microcontroller; ki_description: 2048W Flash, 224B SRAM, 128B EEPROM, DIP18; ki_fp_filters: DIP* PDIP*; Datasheet: http://ww1.microchip.com/downloads/en/DeviceDoc/40300c.pdf
pins: 1 Vref/AN2/RA2, 2 CMP1/AN3/RA3, 3 TOCKI/CMP2/RA4, 4 ~{{MCLR}/Vpp/RA5}, 5 VSS, 6 RB0/INT, 7 RB1/RX/DT, 8 RB2/TX/CK, 9 RB3/CCP1, 10 RB4/PGM, 11 RB5, 12 RB6/T1OSC0/T1CKI/PGC, 13 RB7/T1OSI/PGD, 14 VDD, 15 CLKOUT/OSC2/RA6, 16 CLKIN/OSC1/RA7, 17 AN0/RA0, 18 AN1/RA1

## PIC16F628-xxISO
designator *  value PIC16F628-xxISO  Reference: U
ki_keywords: FLASH-Based 8-Bit CMOS Microcontroller; ki_description: 2048W Flash, 224B SRAM, 128B EEPROM, SO18; ki_fp_filters: SO*; Datasheet: http://ww1.microchip.com/downloads/en/DeviceDoc/40300c.pdf
pins: 1 Vref/AN2/RA2, 2 CMP1/AN3/RA3, 3 TOCKI/CMP2/RA4, 4 ~{{MCLR}/Vpp/RA5}, 5 VSS, 6 RB0/INT, 7 RB1/RX/DT, 8 RB2/TX/CK, 9 RB3/CCP1, 10 RB4/PGM, 11 RB5, 12 RB6/T1OSC0/T1CKI/PGC, 13 RB7/T1OSI/PGD, 14 VDD, 15 CLKOUT/OSC2/RA6, 16 CLKIN/OSC1/RA7, 17 AN0/RA0, 18 AN1/RA1

## PIC16F628-xxISS
designator *  value PIC16F628-xxISS  Reference: U
ki_keywords: FLASH-Based 8-Bit CMOS Microcontroller; ki_description: 2048W Flash, 224B SRAM, 128B EEPROM, SSOP20; ki_fp_filters: SSOP*; Datasheet: http://ww1.microchip.com/downloads/en/DeviceDoc/40300c.pdf
pins: 1 Vref/AN2/RA2, 2 CMP1/AN3/RA3, 3 TOCKI/CMP2/RA4, 4 ~{{MCLR}/Vpp/RA5}, 5 VSS, 6 VSS, 7 RB0/INT, 8 RB1/RX/DT, 9 RB2/TX/CK, 10 RB3/CCP1, 11 RB4/PGM, 12 RB5, 13 RB6/T1OSC0/T1CKI/PGC, 14 RB7/T1OSI/PGD, 15 VDD, 16 VDD, 17 CLKOUT/OSC2/RA6, 18 CLKIN/OSC1/RA7, 19 AN0/RA0, 20 AN1/RA1

## PIC16F628A-IP
designator *  value PIC16F628A-IP  Reference: U
ki_keywords: FLASH-Based 8-Bit CMOS Microcontroller; ki_description: 2048W Flash, 224B SRAM, 128B EEPROM, DIP18; ki_fp_filters: DIP* PDIP*; Datasheet: http://ww1.microchip.com/downloads/en/DeviceDoc/40300c.pdf
pins: 1 Vref/AN2/RA2, 2 CMP1/AN3/RA3, 3 TOCKI/CMP2/RA4, 4 ~{{MCLR}/Vpp/RA5}, 5 VSS, 6 RB0/INT, 7 RB1/RX/DT, 8 RB2/TX/CK, 9 RB3/CCP1, 10 RB4/PGM, 11 RB5, 12 RB6/T1OSC0/T1CKI/PGC, 13 RB7/T1OSI/PGD, 14 VDD, 15 CLKOUT/OSC2/RA6, 16 CLKIN/OSC1/RA7, 17 AN0/RA0, 18 AN1/RA1

## PIC16F628A-ISO
designator *  value PIC16F628A-ISO  Reference: U
ki_keywords: FLASH-Based 8-Bit CMOS Microcontroller; ki_description: PIC16F628A, 2048W Flash, 224B SRAM, 128B EEPROM, SO18; ki_fp_filters: SO*; Datasheet: http://ww1.microchip.com/downloads/en/DeviceDoc/40300c.pdf
pins: 1 Vref/AN2/RA2, 2 CMP1/AN3/RA3, 3 TOCKI/CMP2/RA4, 4 ~{{MCLR}/Vpp/RA5}, 5 VSS, 6 RB0/INT, 7 RB1/RX/DT, 8 RB2/TX/CK, 9 RB3/CCP1, 10 RB4/PGM, 11 RB5, 12 RB6/T1OSC0/T1CKI/PGC, 13 RB7/T1OSI/PGD, 14 VDD, 15 CLKOUT/OSC2/RA6, 16 CLKIN/OSC1/RA7, 17 AN0/RA0, 18 AN1/RA1

## PIC16F628A-ISS
designator *  value PIC16F628A-ISS  Reference: U
ki_keywords: FLASH-Based 8-Bit CMOS Microcontroller; ki_description: PIC16F628A, 2048W Flash, 224B SRAM, 128B EEPROM, SSOP20; ki_fp_filters: SSOP*; Datasheet: http://ww1.microchip.com/downloads/en/DeviceDoc/40044G.pdf
pins: 1 Vref/AN2/RA2, 2 CMP1/AN3/RA3, 3 TOCKI/CMP2/RA4, 4 ~{{MCLR}/Vpp/RA5}, 5 VSS, 6 VSS, 7 RB0/INT, 8 RB1/RX/DT, 9 RB2/TX/CK, 10 RB3/CCP1, 11 RB4/PGM, 12 RB5, 13 RB6/T1OSC0/T1CKI/PGC, 14 RB7/T1OSI/PGD, 15 VDD, 16 VDD, 17 CLKOUT/OSC2/RA6, 18 CLKIN/OSC1/RA7, 19 AN0/RA0, 20 AN1/RA1

## PIC16F631-IP
designator *  value PIC16F631-IP  Reference: U
ki_keywords: Flash-Based 8-Bit CMOS Microcontroller nanoWatt; ki_description: 1024W Flash, 64B SRAM, 128B EEPROM, DIP20; ki_fp_filters: DIP* PDIP*; Datasheet: http://ww1.microchip.com/downloads/en/DeviceDoc/41262E.pdf
pins: 1 VDD, 2 T1CKI/OSC1/CLKIN/RA5, 3 ~{{T1G}/OSC2/CLKOUT/RA4}, 4 Vpp/~{{MCLR}/RA3}, 5 RC5, 6 RC4/C2OUT, 7 RC3/C12IN3-, 8 RC6, 9 RC7, 10 RB7, 11 RB6, 12 RB5, 13 RB4, 14 RC2/C12IN2-, 15 RC1/C12IN1-, 16 RC0/C2IN+, 17 T0CKI/INT/C1OUT/RA2, 18 C12IN0-/ICSPCLK/RA1, 19 C1IN+/ICSPDAT/ULPWU/RA0, 20 VSS

## PIC16F631-ISO
designator *  value PIC16F631-ISO  Reference: U
ki_keywords: Flash-Based 8-Bit CMOS Microcontroller nanoWatt; ki_description: PIC16F631, 1024W Flash, 64B SRAM, 128B EEPROM, SO20; ki_fp_filters: SO*; Datasheet: http://ww1.microchip.com/downloads/en/DeviceDoc/41262E.pdf
pins: 1 VDD, 2 T1CKI/OSC1/CLKIN/RA5, 3 ~{{T1G}/OSC2/CLKOUT/RA4}, 4 Vpp/~{{MCLR}/RA3}, 5 RC5, 6 RC4/C2OUT, 7 RC3/C12IN3-, 8 RC6, 9 RC7, 10 RB7, 11 RB6, 12 RB5, 13 RB4, 14 RC2/C12IN2-, 15 RC1/C12IN1-, 16 RC0/C2IN+, 17 T0CKI/INT/C1OUT/RA2, 18 C12IN0-/ICSPCLK/RA1, 19 C1IN+/ICSPDAT/ULPWU/RA0, 20 VSS

## PIC16F631-ISS
designator *  value PIC16F631-ISS  Reference: U
ki_keywords: Flash-Based 8-Bit CMOS Microcontroller nanoWatt; ki_description: PIC16F631, 1024W Flash, 64B SRAM, 128B EEPROM, SSOP20; ki_fp_filters: SSOP*; Datasheet: http://ww1.microchip.com/downloads/en/DeviceDoc/41262E.pdf
pins: 1 VDD, 2 T1CKI/OSC1/CLKIN/RA5, 3 ~{{T1G}/OSC2/CLKOUT/RA4}, 4 Vpp/~{{MCLR}/RA3}, 5 RC5, 6 RC4/C2OUT, 7 RC3/C12IN3-, 8 RC6, 9 RC7, 10 RB7, 11 RB6, 12 RB5, 13 RB4, 14 RC2/C12IN2-, 15 RC1/C12IN1-, 16 RC0/C2IN+, 17 T0CKI/INT/C1OUT/RA2, 18 C12IN0-/ICSPCLK/RA1, 19 C1IN+/ICSPDAT/ULPWU/RA0, 20 VSS

## PIC16F648A-IP
designator *  value PIC16F648A-IP  Reference: U
ki_keywords: FLASH-Based 8-Bit CMOS Microcontroller; ki_description: 4096W Flash, 256B SRAM, 256B EEPROM, DIP18; ki_fp_filters: DIP* PDIP*; Datasheet: http://ww1.microchip.com/downloads/en/DeviceDoc/40300c.pdf
pins: 1 Vref/AN2/RA2, 2 CMP1/AN3/RA3, 3 TOCKI/CMP2/RA4, 4 ~{{MCLR}/Vpp/RA5}, 5 VSS, 6 RB0/INT, 7 RB1/RX/DT, 8 RB2/TX/CK, 9 RB3/CCP1, 10 RB4/PGM, 11 RB5, 12 RB6/T1OSC0/T1CKI/PGC, 13 RB7/T1OSI/PGD, 14 VDD, 15 CLKOUT/OSC2/RA6, 16 CLKIN/OSC1/RA7, 17 AN0/RA0, 18 AN1/RA1

## PIC16F648A-ISO
designator *  value PIC16F648A-ISO  Reference: U
ki_keywords: FLASH-Based 8-Bit CMOS Microcontroller; ki_description: PIC16F648A, 4096W Flash, 256B SRAM, 256B EEPROM, SO18; ki_fp_filters: SO*; Datasheet: http://ww1.microchip.com/downloads/en/DeviceDoc/40300c.pdf
pins: 1 Vref/AN2/RA2, 2 CMP1/AN3/RA3, 3 TOCKI/CMP2/RA4, 4 ~{{MCLR}/Vpp/RA5}, 5 VSS, 6 RB0/INT, 7 RB1/RX/DT, 8 RB2/TX/CK, 9 RB3/CCP1, 10 RB4/PGM, 11 RB5, 12 RB6/T1OSC0/T1CKI/PGC, 13 RB7/T1OSI/PGD, 14 VDD, 15 CLKOUT/OSC2/RA6, 16 CLKIN/OSC1/RA7, 17 AN0/RA0, 18 AN1/RA1

## PIC16F648A-ISS
designator *  value PIC16F648A-ISS  Reference: U
ki_keywords: FLASH-Based 8-Bit CMOS Microcontroller; ki_description: PIC16F648A, 4096W Flash, 256B SRAM, 256B EEPROM, SSOP20; ki_fp_filters: SSOP*; Datasheet: http://ww1.microchip.com/downloads/en/DeviceDoc/40044G.pdf
pins: 1 Vref/AN2/RA2, 2 CMP1/AN3/RA3, 3 TOCKI/CMP2/RA4, 4 ~{{MCLR}/Vpp/RA5}, 5 VSS, 6 VSS, 7 RB0/INT, 8 RB1/RX/DT, 9 RB2/TX/CK, 10 RB3/CCP1, 11 RB4/PGM, 12 RB5, 13 RB6/T1OSC0/T1CKI/PGC, 14 RB7/T1OSI/PGD, 15 VDD, 16 VDD, 17 CLKOUT/OSC2/RA6, 18 CLKIN/OSC1/RA7, 19 AN0/RA0, 20 AN1/RA1

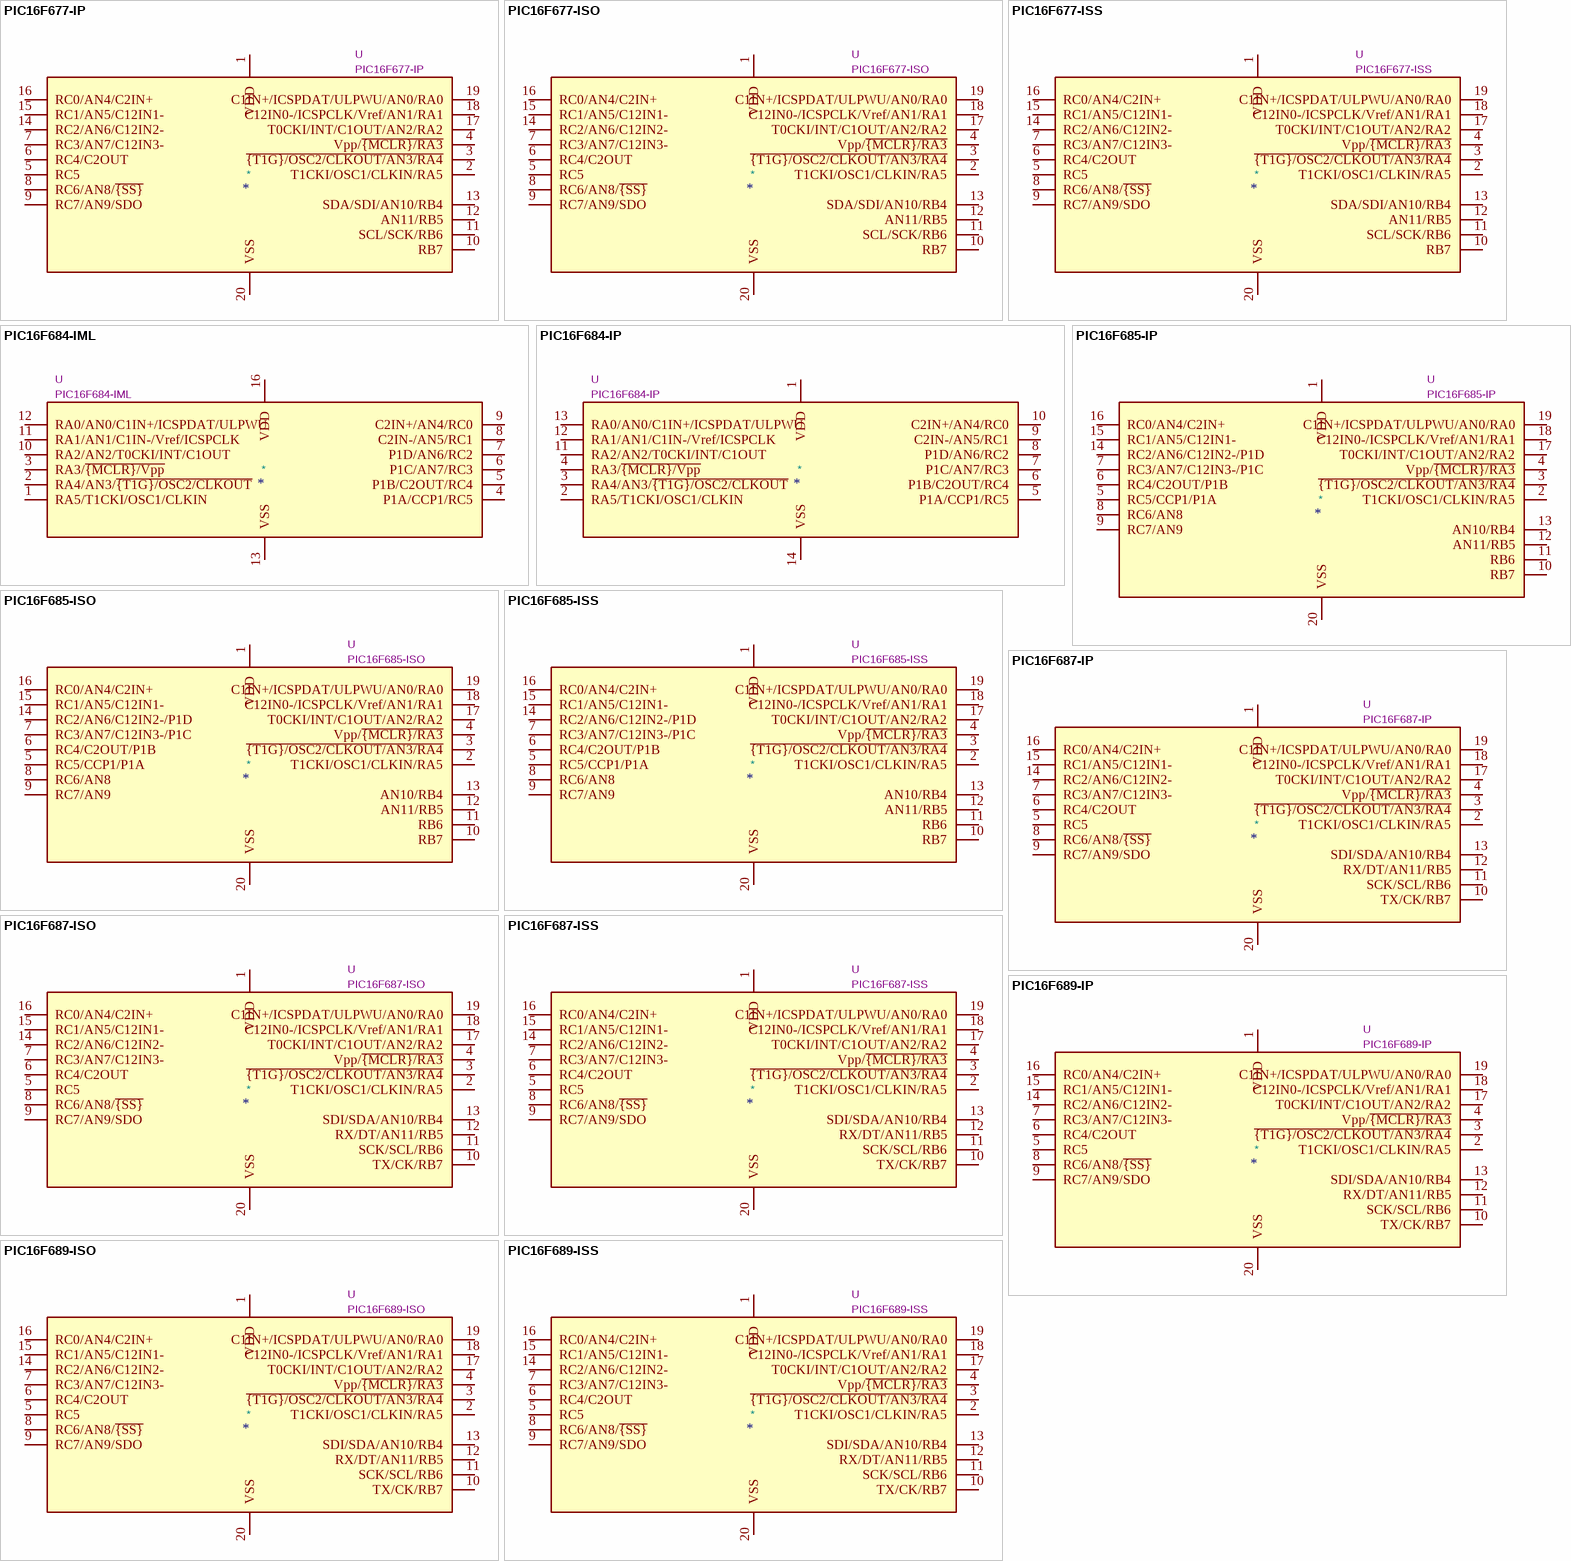
[diagram p3: symbols PIC16F677-IP to PIC16F689-ISS]

## PIC16F677-IP
designator *  value PIC16F677-IP  Reference: U
ki_keywords: Flash-Based 8-Bit CMOS Microcontroller nanoWatt; ki_description: 2048W Flash, 128B SRAM, 128B EEPROM, DIP20; ki_fp_filters: DIP* PDIP*; Datasheet: http://ww1.microchip.com/downloads/en/DeviceDoc/41262E.pdf
pins: 1 VDD, 2 T1CKI/OSC1/CLKIN/RA5, 3 ~{{T1G}/OSC2/CLKOUT/AN3/RA4}, 4 Vpp/~{{MCLR}/RA3}, 5 RC5, 6 RC4/C2OUT, 7 RC3/AN7/C12IN3-, 8 RC6/AN8/~{{SS}}, 9 RC7/AN9/SDO, 10 RB7, 11 SCL/SCK/RB6, 12 AN11/RB5, 13 SDA/SDI/AN10/RB4, 14 RC2/AN6/C12IN2-, 15 RC1/AN5/C12IN1-, 16 RC0/AN4/C2IN+, 17 T0CKI/INT/C1OUT/AN2/RA2, 18 C12IN0-/ICSPCLK/Vref/AN1/RA1, 19 C1IN+/ICSPDAT/ULPWU/AN0/RA0, 20 VSS

## PIC16F677-ISO
designator *  value PIC16F677-ISO  Reference: U
ki_keywords: Flash-Based 8-Bit CMOS Microcontroller nanoWatt; ki_description: PIC16F677, 2048W Flash, 128B SRAM, 128B EEPROM, SO20; ki_fp_filters: SO*; Datasheet: http://ww1.microchip.com/downloads/en/DeviceDoc/41262E.pdf
pins: 1 VDD, 2 T1CKI/OSC1/CLKIN/RA5, 3 ~{{T1G}/OSC2/CLKOUT/AN3/RA4}, 4 Vpp/~{{MCLR}/RA3}, 5 RC5, 6 RC4/C2OUT, 7 RC3/AN7/C12IN3-, 8 RC6/AN8/~{{SS}}, 9 RC7/AN9/SDO, 10 RB7, 11 SCL/SCK/RB6, 12 AN11/RB5, 13 SDA/SDI/AN10/RB4, 14 RC2/AN6/C12IN2-, 15 RC1/AN5/C12IN1-, 16 RC0/AN4/C2IN+, 17 T0CKI/INT/C1OUT/AN2/RA2, 18 C12IN0-/ICSPCLK/Vref/AN1/RA1, 19 C1IN+/ICSPDAT/ULPWU/AN0/RA0, 20 VSS

## PIC16F677-ISS
designator *  value PIC16F677-ISS  Reference: U
ki_keywords: Flash-Based 8-Bit CMOS Microcontroller nanoWatt; ki_description: PIC16F677, 2048W Flash, 128B SRAM, 128B EEPROM, SSOP20; ki_fp_filters: SSOP*; Datasheet: http://ww1.microchip.com/downloads/en/DeviceDoc/41262E.pdf
pins: 1 VDD, 2 T1CKI/OSC1/CLKIN/RA5, 3 ~{{T1G}/OSC2/CLKOUT/AN3/RA4}, 4 Vpp/~{{MCLR}/RA3}, 5 RC5, 6 RC4/C2OUT, 7 RC3/AN7/C12IN3-, 8 RC6/AN8/~{{SS}}, 9 RC7/AN9/SDO, 10 RB7, 11 SCL/SCK/RB6, 12 AN11/RB5, 13 SDA/SDI/AN10/RB4, 14 RC2/AN6/C12IN2-, 15 RC1/AN5/C12IN1-, 16 RC0/AN4/C2IN+, 17 T0CKI/INT/C1OUT/AN2/RA2, 18 C12IN0-/ICSPCLK/Vref/AN1/RA1, 19 C1IN+/ICSPDAT/ULPWU/AN0/RA0, 20 VSS

## PIC16F684-IML
designator *  value PIC16F684-IML  Reference: U
ki_keywords: FLASH-Based 8-Bit CMOS Microcontroller Low Power; ki_description: PIC16F684 , 2048W FLASH, 128B SRAM, 256B EEPROM, QFN-16; ki_fp_filters: QFN*; Datasheet: http://ww1.microchip.com/downloads/en/DeviceDoc/41202F-print.pdf
pins: 1 RA5/T1CKI/OSC1/CLKIN, 2 RA4/AN3/~{{T1G}/OSC2/CLKOUT}, 3 RA3/~{{MCLR}/Vpp}, 4 P1A/CCP1/RC5, 5 P1B/C2OUT/RC4, 6 P1C/AN7/RC3, 7 P1D/AN6/RC2, 8 C2IN-/AN5/RC1, 9 C2IN+/AN4/RC0, 10 RA2/AN2/T0CKI/INT/C1OUT, 11 RA1/AN1/C1IN-/Vref/ICSPCLK, 12 RA0/AN0/C1IN+/ICSPDAT/ULPWU, 13 VSS, 16 VDD

## PIC16F684-IP
designator *  value PIC16F684-IP  Reference: U
ki_keywords: FLASH-Based 8-Bit CMOS Microcontroller Low Power; ki_description: 2048W FLASH, 128B SRAM, 256B EEPROM, PDIP-14; ki_fp_filters: DIP* PDIP* SO*; Datasheet: http://ww1.microchip.com/downloads/en/DeviceDoc/41202F-print.pdf
pins: 1 VDD, 2 RA5/T1CKI/OSC1/CLKIN, 3 RA4/AN3/~{{T1G}/OSC2/CLKOUT}, 4 RA3/~{{MCLR}/Vpp}, 5 P1A/CCP1/RC5, 6 P1B/C2OUT/RC4, 7 P1C/AN7/RC3, 8 P1D/AN6/RC2, 9 C2IN-/AN5/RC1, 10 C2IN+/AN4/RC0, 11 RA2/AN2/T0CKI/INT/C1OUT, 12 RA1/AN1/C1IN-/Vref/ICSPCLK, 13 RA0/AN0/C1IN+/ICSPDAT/ULPWU, 14 VSS

## PIC16F685-IP
designator *  value PIC16F685-IP  Reference: U
ki_keywords: Flash-Based 8-Bit CMOS Microcontroller nanoWatt; ki_description: 4096W Flash, 256B SRAM, 256B EEPROM, DIP20; ki_fp_filters: DIP* PDIP*; Datasheet: http://ww1.microchip.com/downloads/en/DeviceDoc/41262E.pdf
pins: 1 VDD, 2 T1CKI/OSC1/CLKIN/RA5, 3 ~{{T1G}/OSC2/CLKOUT/AN3/RA4}, 4 Vpp/~{{MCLR}/RA3}, 5 RC5/CCP1/P1A, 6 RC4/C2OUT/P1B, 7 RC3/AN7/C12IN3-/P1C, 8 RC6/AN8, 9 RC7/AN9, 10 RB7, 11 RB6, 12 AN11/RB5, 13 AN10/RB4, 14 RC2/AN6/C12IN2-/P1D, 15 RC1/AN5/C12IN1-, 16 RC0/AN4/C2IN+, 17 T0CKI/INT/C1OUT/AN2/RA2, 18 C12IN0-/ICSPCLK/Vref/AN1/RA1, 19 C1IN+/ICSPDAT/ULPWU/AN0/RA0, 20 VSS

## PIC16F685-ISO
designator *  value PIC16F685-ISO  Reference: U
ki_keywords: Flash-Based 8-Bit CMOS Microcontroller nanoWatt; ki_description: PIC16F685, 4096W Flash, 256B SRAM, 256B EEPROM, SO20; ki_fp_filters: SO*; Datasheet: http://ww1.microchip.com/downloads/en/DeviceDoc/41262E.pdf
pins: 1 VDD, 2 T1CKI/OSC1/CLKIN/RA5, 3 ~{{T1G}/OSC2/CLKOUT/AN3/RA4}, 4 Vpp/~{{MCLR}/RA3}, 5 RC5/CCP1/P1A, 6 RC4/C2OUT/P1B, 7 RC3/AN7/C12IN3-/P1C, 8 RC6/AN8, 9 RC7/AN9, 10 RB7, 11 RB6, 12 AN11/RB5, 13 AN10/RB4, 14 RC2/AN6/C12IN2-/P1D, 15 RC1/AN5/C12IN1-, 16 RC0/AN4/C2IN+, 17 T0CKI/INT/C1OUT/AN2/RA2, 18 C12IN0-/ICSPCLK/Vref/AN1/RA1, 19 C1IN+/ICSPDAT/ULPWU/AN0/RA0, 20 VSS

## PIC16F685-ISS
designator *  value PIC16F685-ISS  Reference: U
ki_keywords: Flash-Based 8-Bit CMOS Microcontroller nanoWatt; ki_description: PIC16F685, 4096W Flash, 256B SRAM, 256B EEPROM, SSOP20; ki_fp_filters: SO*; Datasheet: http://ww1.microchip.com/downloads/en/DeviceDoc/41262E.pdf
pins: 1 VDD, 2 T1CKI/OSC1/CLKIN/RA5, 3 ~{{T1G}/OSC2/CLKOUT/AN3/RA4}, 4 Vpp/~{{MCLR}/RA3}, 5 RC5/CCP1/P1A, 6 RC4/C2OUT/P1B, 7 RC3/AN7/C12IN3-/P1C, 8 RC6/AN8, 9 RC7/AN9, 10 RB7, 11 RB6, 12 AN11/RB5, 13 AN10/RB4, 14 RC2/AN6/C12IN2-/P1D, 15 RC1/AN5/C12IN1-, 16 RC0/AN4/C2IN+, 17 T0CKI/INT/C1OUT/AN2/RA2, 18 C12IN0-/ICSPCLK/Vref/AN1/RA1, 19 C1IN+/ICSPDAT/ULPWU/AN0/RA0, 20 VSS

## PIC16F687-IP
designator *  value PIC16F687-IP  Reference: U
ki_keywords: Flash-Based 8-Bit CMOS Microcontroller nanoWatt; ki_description: 2048W Flash, 128B SRAM, 256B EEPROM, DIP20; ki_fp_filters: DIP* PDIP*; Datasheet: http://ww1.microchip.com/downloads/en/DeviceDoc/41262E.pdf
pins: 1 VDD, 2 T1CKI/OSC1/CLKIN/RA5, 3 ~{{T1G}/OSC2/CLKOUT/AN3/RA4}, 4 Vpp/~{{MCLR}/RA3}, 5 RC5, 6 RC4/C2OUT, 7 RC3/AN7/C12IN3-, 8 RC6/AN8/~{{SS}}, 9 RC7/AN9/SDO, 10 TX/CK/RB7, 11 SCK/SCL/RB6, 12 RX/DT/AN11/RB5, 13 SDI/SDA/AN10/RB4, 14 RC2/AN6/C12IN2-, 15 RC1/AN5/C12IN1-, 16 RC0/AN4/C2IN+, 17 T0CKI/INT/C1OUT/AN2/RA2, 18 C12IN0-/ICSPCLK/Vref/AN1/RA1, 19 C1IN+/ICSPDAT/ULPWU/AN0/RA0, 20 VSS

## PIC16F687-ISO
designator *  value PIC16F687-ISO  Reference: U
ki_keywords: Flash-Based 8-Bit CMOS Microcontroller nanoWatt; ki_description: PIC16F687, 2048W Flash, 128B SRAM, 256B EEPROM, SO20; ki_fp_filters: SO*; Datasheet: http://ww1.microchip.com/downloads/en/DeviceDoc/41262E.pdf
pins: 1 VDD, 2 T1CKI/OSC1/CLKIN/RA5, 3 ~{{T1G}/OSC2/CLKOUT/AN3/RA4}, 4 Vpp/~{{MCLR}/RA3}, 5 RC5, 6 RC4/C2OUT, 7 RC3/AN7/C12IN3-, 8 RC6/AN8/~{{SS}}, 9 RC7/AN9/SDO, 10 TX/CK/RB7, 11 SCK/SCL/RB6, 12 RX/DT/AN11/RB5, 13 SDI/SDA/AN10/RB4, 14 RC2/AN6/C12IN2-, 15 RC1/AN5/C12IN1-, 16 RC0/AN4/C2IN+, 17 T0CKI/INT/C1OUT/AN2/RA2, 18 C12IN0-/ICSPCLK/Vref/AN1/RA1, 19 C1IN+/ICSPDAT/ULPWU/AN0/RA0, 20 VSS

## PIC16F687-ISS
designator *  value PIC16F687-ISS  Reference: U
ki_keywords: Flash-Based 8-Bit CMOS Microcontroller nanoWatt; ki_description: PIC16F687, 2048W Flash, 128B SRAM, 256B EEPROM, SSOP20; ki_fp_filters: SSOP*; Datasheet: http://ww1.microchip.com/downloads/en/DeviceDoc/41262E.pdf
pins: 1 VDD, 2 T1CKI/OSC1/CLKIN/RA5, 3 ~{{T1G}/OSC2/CLKOUT/AN3/RA4}, 4 Vpp/~{{MCLR}/RA3}, 5 RC5, 6 RC4/C2OUT, 7 RC3/AN7/C12IN3-, 8 RC6/AN8/~{{SS}}, 9 RC7/AN9/SDO, 10 TX/CK/RB7, 11 SCK/SCL/RB6, 12 RX/DT/AN11/RB5, 13 SDI/SDA/AN10/RB4, 14 RC2/AN6/C12IN2-, 15 RC1/AN5/C12IN1-, 16 RC0/AN4/C2IN+, 17 T0CKI/INT/C1OUT/AN2/RA2, 18 C12IN0-/ICSPCLK/Vref/AN1/RA1, 19 C1IN+/ICSPDAT/ULPWU/AN0/RA0, 20 VSS

## PIC16F689-IP
designator *  value PIC16F689-IP  Reference: U
ki_keywords: Flash-Based 8-Bit CMOS Microcontroller nanoWatt; ki_description: 4096W Flash, 256B SRAM, 256B EEPROM, DIP20; ki_fp_filters: DIP* PDIP*; Datasheet: http://ww1.microchip.com/downloads/en/DeviceDoc/41262E.pdf
pins: 1 VDD, 2 T1CKI/OSC1/CLKIN/RA5, 3 ~{{T1G}/OSC2/CLKOUT/AN3/RA4}, 4 Vpp/~{{MCLR}/RA3}, 5 RC5, 6 RC4/C2OUT, 7 RC3/AN7/C12IN3-, 8 RC6/AN8/~{{SS}}, 9 RC7/AN9/SDO, 10 TX/CK/RB7, 11 SCK/SCL/RB6, 12 RX/DT/AN11/RB5, 13 SDI/SDA/AN10/RB4, 14 RC2/AN6/C12IN2-, 15 RC1/AN5/C12IN1-, 16 RC0/AN4/C2IN+, 17 T0CKI/INT/C1OUT/AN2/RA2, 18 C12IN0-/ICSPCLK/Vref/AN1/RA1, 19 C1IN+/ICSPDAT/ULPWU/AN0/RA0, 20 VSS

## PIC16F689-ISO
designator *  value PIC16F689-ISO  Reference: U
ki_keywords: Flash-Based 8-Bit CMOS Microcontroller nanoWatt; ki_description: PIC16F689, 4096W Flash, 256B SRAM, 256B EEPROM, SO20; ki_fp_filters: SO*; Datasheet: http://ww1.microchip.com/downloads/en/DeviceDoc/41262E.pdf
pins: 1 VDD, 2 T1CKI/OSC1/CLKIN/RA5, 3 ~{{T1G}/OSC2/CLKOUT/AN3/RA4}, 4 Vpp/~{{MCLR}/RA3}, 5 RC5, 6 RC4/C2OUT, 7 RC3/AN7/C12IN3-, 8 RC6/AN8/~{{SS}}, 9 RC7/AN9/SDO, 10 TX/CK/RB7, 11 SCK/SCL/RB6, 12 RX/DT/AN11/RB5, 13 SDI/SDA/AN10/RB4, 14 RC2/AN6/C12IN2-, 15 RC1/AN5/C12IN1-, 16 RC0/AN4/C2IN+, 17 T0CKI/INT/C1OUT/AN2/RA2, 18 C12IN0-/ICSPCLK/Vref/AN1/RA1, 19 C1IN+/ICSPDAT/ULPWU/AN0/RA0, 20 VSS

## PIC16F689-ISS
designator *  value PIC16F689-ISS  Reference: U
ki_keywords: Flash-Based 8-Bit CMOS Microcontroller nanoWatt; ki_description: PIC16F689, 4096W Flash, 256B SRAM, 256B EEPROM, SSOP20; ki_fp_filters: SSOP*; Datasheet: http://ww1.microchip.com/downloads/en/DeviceDoc/41262E.pdf
pins: 1 VDD, 2 T1CKI/OSC1/CLKIN/RA5, 3 ~{{T1G}/OSC2/CLKOUT/AN3/RA4}, 4 Vpp/~{{MCLR}/RA3}, 5 RC5, 6 RC4/C2OUT, 7 RC3/AN7/C12IN3-, 8 RC6/AN8/~{{SS}}, 9 RC7/AN9/SDO, 10 TX/CK/RB7, 11 SCK/SCL/RB6, 12 RX/DT/AN11/RB5, 13 SDI/SDA/AN10/RB4, 14 RC2/AN6/C12IN2-, 15 RC1/AN5/C12IN1-, 16 RC0/AN4/C2IN+, 17 T0CKI/INT/C1OUT/AN2/RA2, 18 C12IN0-/ICSPCLK/Vref/AN1/RA1, 19 C1IN+/ICSPDAT/ULPWU/AN0/RA0, 20 VSS

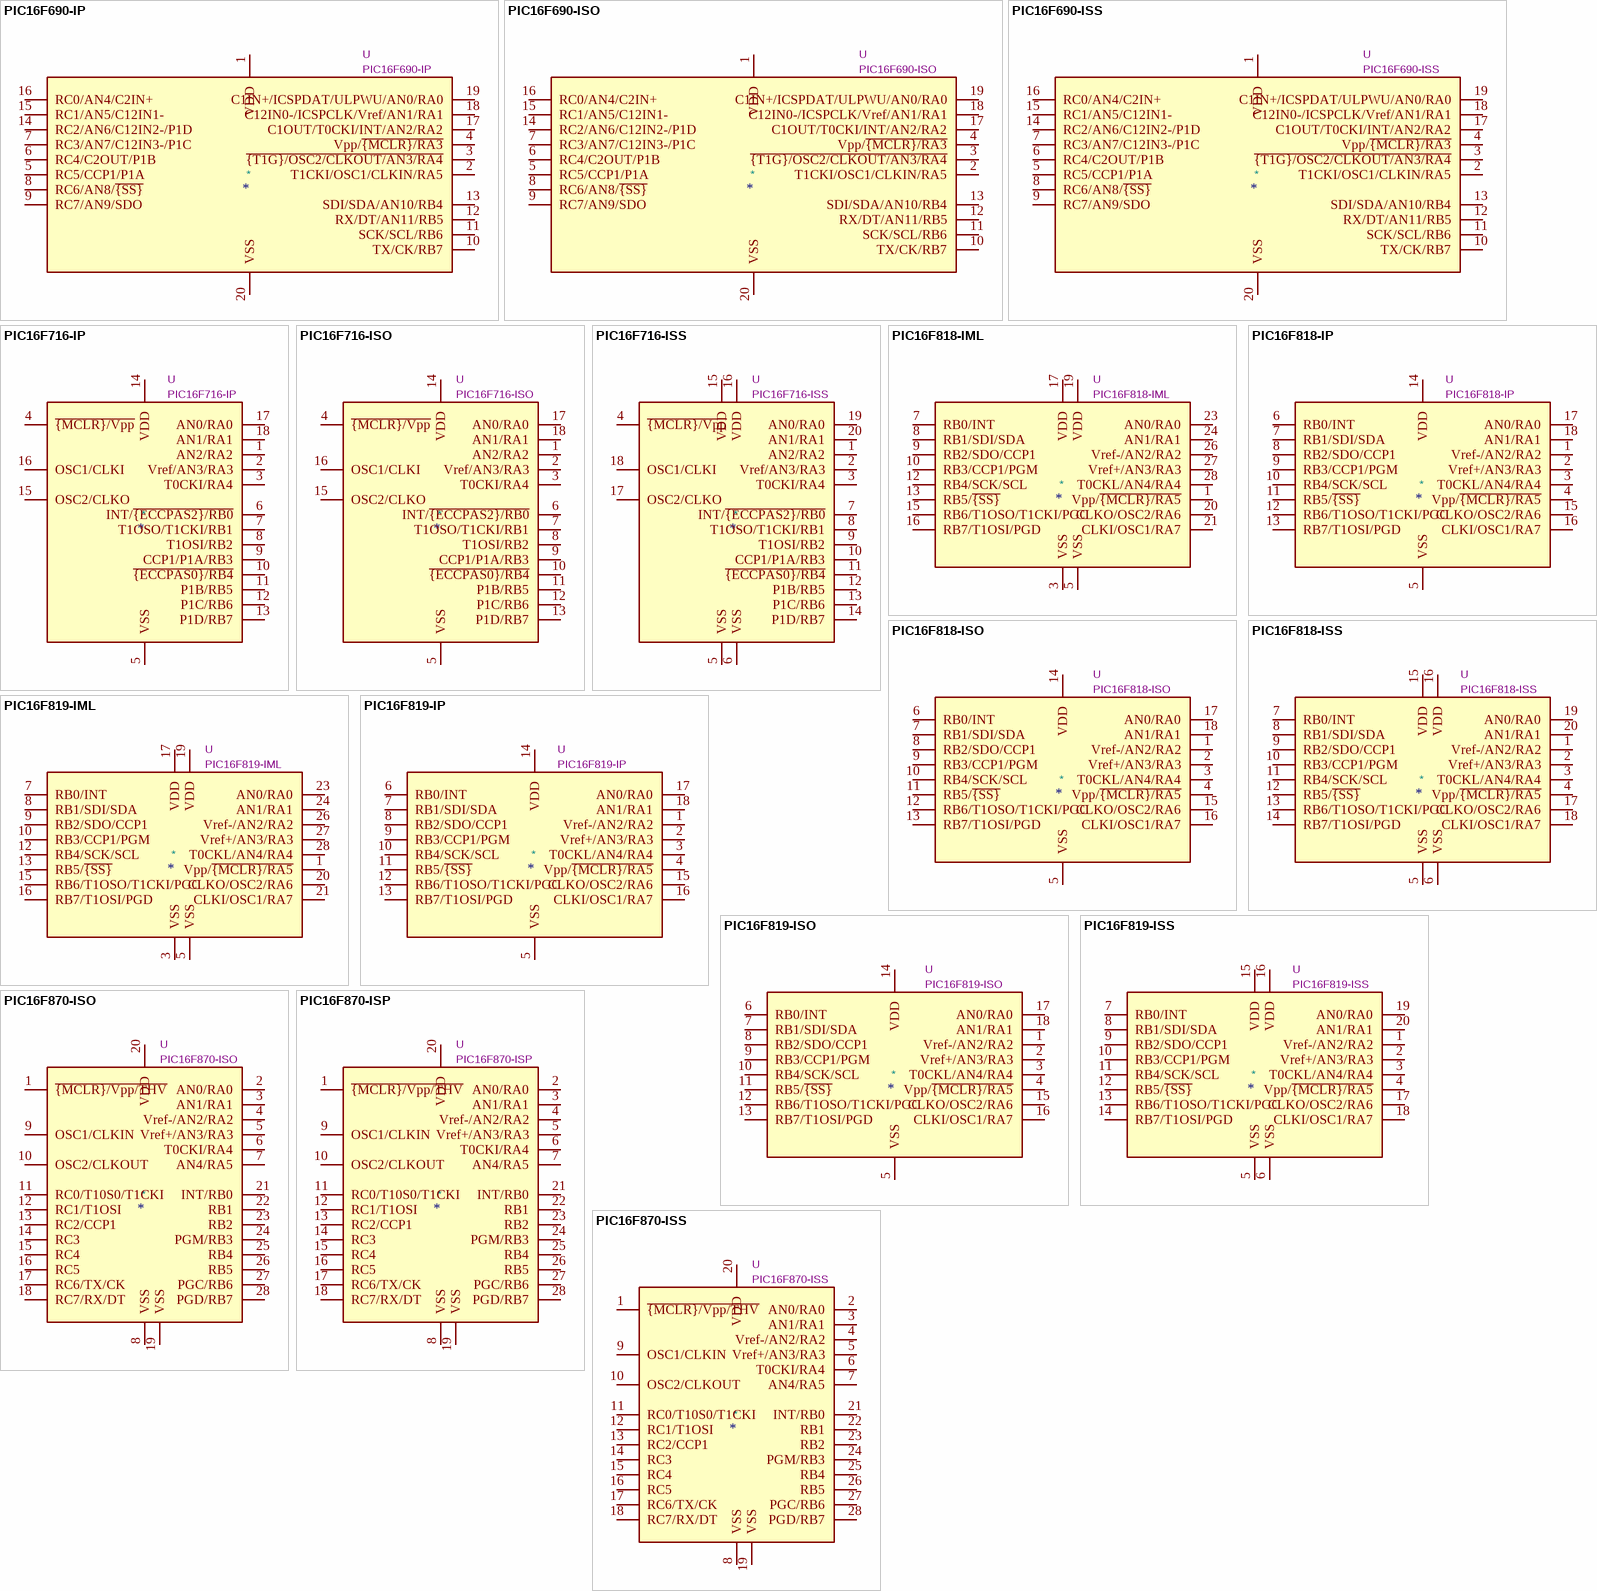
[diagram p4: symbols PIC16F690-IP to PIC16F870-ISS]

## PIC16F690-IP
designator *  value PIC16F690-IP  Reference: U
ki_keywords: Flash-Based 8-Bit CMOS Microcontroller nanoWatt; ki_description: 4096W Flash, 256B SRAM, 256B EEPROM, DIP20; ki_fp_filters: DIP* PDIP*; Datasheet: http://ww1.microchip.com/downloads/en/DeviceDoc/41262E.pdf
pins: 1 VDD, 2 T1CKI/OSC1/CLKIN/RA5, 3 ~{{T1G}/OSC2/CLKOUT/AN3/RA4}, 4 Vpp/~{{MCLR}/RA3}, 5 RC5/CCP1/P1A, 6 RC4/C2OUT/P1B, 7 RC3/AN7/C12IN3-/P1C, 8 RC6/AN8/~{{SS}}, 9 RC7/AN9/SDO, 10 TX/CK/RB7, 11 SCK/SCL/RB6, 12 RX/DT/AN11/RB5, 13 SDI/SDA/AN10/RB4, 14 RC2/AN6/C12IN2-/P1D, 15 RC1/AN5/C12IN1-, 16 RC0/AN4/C2IN+, 17 C1OUT/T0CKI/INT/AN2/RA2, 18 C12IN0-/ICSPCLK/Vref/AN1/RA1, 19 C1IN+/ICSPDAT/ULPWU/AN0/RA0, 20 VSS

## PIC16F690-ISO
designator *  value PIC16F690-ISO  Reference: U
ki_keywords: Flash-Based 8-Bit CMOS Microcontroller nanoWatt; ki_description: PIC16F690, 4096W Flash, 256B SRAM, 256B EEPROM, SO20; ki_fp_filters: SO*; Datasheet: http://ww1.microchip.com/downloads/en/DeviceDoc/41262E.pdf
pins: 1 VDD, 2 T1CKI/OSC1/CLKIN/RA5, 3 ~{{T1G}/OSC2/CLKOUT/AN3/RA4}, 4 Vpp/~{{MCLR}/RA3}, 5 RC5/CCP1/P1A, 6 RC4/C2OUT/P1B, 7 RC3/AN7/C12IN3-/P1C, 8 RC6/AN8/~{{SS}}, 9 RC7/AN9/SDO, 10 TX/CK/RB7, 11 SCK/SCL/RB6, 12 RX/DT/AN11/RB5, 13 SDI/SDA/AN10/RB4, 14 RC2/AN6/C12IN2-/P1D, 15 RC1/AN5/C12IN1-, 16 RC0/AN4/C2IN+, 17 C1OUT/T0CKI/INT/AN2/RA2, 18 C12IN0-/ICSPCLK/Vref/AN1/RA1, 19 C1IN+/ICSPDAT/ULPWU/AN0/RA0, 20 VSS

## PIC16F690-ISS
designator *  value PIC16F690-ISS  Reference: U
ki_keywords: Flash-Based 8-Bit CMOS Microcontroller nanoWatt; ki_description: PIC16F690, 4096W Flash, 256B SRAM, 256B EEPROM, SSOP20; ki_fp_filters: SSOP*; Datasheet: http://ww1.microchip.com/downloads/en/DeviceDoc/41262E.pdf
pins: 1 VDD, 2 T1CKI/OSC1/CLKIN/RA5, 3 ~{{T1G}/OSC2/CLKOUT/AN3/RA4}, 4 Vpp/~{{MCLR}/RA3}, 5 RC5/CCP1/P1A, 6 RC4/C2OUT/P1B, 7 RC3/AN7/C12IN3-/P1C, 8 RC6/AN8/~{{SS}}, 9 RC7/AN9/SDO, 10 TX/CK/RB7, 11 SCK/SCL/RB6, 12 RX/DT/AN11/RB5, 13 SDI/SDA/AN10/RB4, 14 RC2/AN6/C12IN2-/P1D, 15 RC1/AN5/C12IN1-, 16 RC0/AN4/C2IN+, 17 C1OUT/T0CKI/INT/AN2/RA2, 18 C12IN0-/ICSPCLK/Vref/AN1/RA1, 19 C1IN+/ICSPDAT/ULPWU/AN0/RA0, 20 VSS

## PIC16F716-IP
designator *  value PIC16F716-IP  Reference: U
ki_keywords: FLASH-Based 8-Bit CMOS Microcontroller; ki_description: 2048W Flash, 128B SRAM, DIP18; ki_fp_filters: DIP* PDIP*; Datasheet: http://ww1.microchip.com/downloads/en/DeviceDoc/41206B.pdf
pins: 1 AN2/RA2, 2 Vref/AN3/RA3, 3 T0CKI/RA4, 4 ~{{MCLR}/Vpp}, 5 VSS, 6 INT/~{{ECCPAS2}/RB0}, 7 T1OSO/T1CKI/RB1, 8 T1OSI/RB2, 9 CCP1/P1A/RB3, 10 ~{{ECCPAS0}/RB4}, 11 P1B/RB5, 12 P1C/RB6, 13 P1D/RB7, 14 VDD, 15 OSC2/CLKO, 16 OSC1/CLKI, 17 AN0/RA0, 18 AN1/RA1

## PIC16F716-ISO
designator *  value PIC16F716-ISO  Reference: U
ki_keywords: FLASH-Based 8-Bit CMOS Microcontroller; ki_description: PIC16F716, 2048W Flash, 128B SRAM, SO18; ki_fp_filters: SO*; Datasheet: http://ww1.microchip.com/downloads/en/DeviceDoc/41206B.pdf
pins: 1 AN2/RA2, 2 Vref/AN3/RA3, 3 T0CKI/RA4, 4 ~{{MCLR}/Vpp}, 5 VSS, 6 INT/~{{ECCPAS2}/RB0}, 7 T1OSO/T1CKI/RB1, 8 T1OSI/RB2, 9 CCP1/P1A/RB3, 10 ~{{ECCPAS0}/RB4}, 11 P1B/RB5, 12 P1C/RB6, 13 P1D/RB7, 14 VDD, 15 OSC2/CLKO, 16 OSC1/CLKI, 17 AN0/RA0, 18 AN1/RA1

## PIC16F716-ISS
designator *  value PIC16F716-ISS  Reference: U
ki_keywords: FLASH-Based 8-Bit CMOS Microcontroller; ki_description: PIC16F716, 2048W Flash, 128B SRAM, SSOP20; ki_fp_filters: SSOP*; Datasheet: http://ww1.microchip.com/downloads/en/DeviceDoc/41206B.pdf
pins: 1 AN2/RA2, 2 Vref/AN3/RA3, 3 T0CKI/RA4, 4 ~{{MCLR}/Vpp}, 5 VSS, 6 VSS, 7 INT/~{{ECCPAS2}/RB0}, 8 T1OSO/T1CKI/RB1, 9 T1OSI/RB2, 10 CCP1/P1A/RB3, 11 ~{{ECCPAS0}/RB4}, 12 P1B/RB5, 13 P1C/RB6, 14 P1D/RB7, 15 VDD, 16 VDD, 17 OSC2/CLKO, 18 OSC1/CLKI, 19 AN0/RA0, 20 AN1/RA1

## PIC16F818-IML
designator *  value PIC16F818-IML  Reference: U
ki_keywords: Flash-Based 8-Bit Microcontroller nanoWatt; ki_description: PIC16F818, 1792B Flash, 128B SRAM, 128B EEPROM, ADC, QFN28; ki_fp_filters: QFN*; Datasheet: http://ww1.microchip.com/downloads/en/DeviceDoc/39598F.pdf
pins: 1 Vpp/~{{MCLR}/RA5}, 3 VSS, 5 VSS, 7 RB0/INT, 8 RB1/SDI/SDA, 9 RB2/SDO/CCP1, 10 RB3/CCP1/PGM, 12 RB4/SCK/SCL, 13 RB5/~{{SS}}, 15 RB6/T1OSO/T1CKI/PGC, 16 RB7/T1OSI/PGD, 17 VDD, 19 VDD, 20 CLKO/OSC2/RA6, 21 CLKI/OSC1/RA7, 23 AN0/RA0, 24 AN1/RA1, 26 Vref-/AN2/RA2, 27 Vref+/AN3/RA3, 28 T0CKL/AN4/RA4

## PIC16F818-IP
designator *  value PIC16F818-IP  Reference: U
ki_keywords: Flash-Based 8-Bit Microcontroller nanoWatt; ki_description: 1792B Flash, 128B SRAM, 128B EEPROM, ADC, DIP18; ki_fp_filters: DIP* PDIP*; Datasheet: http://ww1.microchip.com/downloads/en/DeviceDoc/39598F.pdf
pins: 1 Vref-/AN2/RA2, 2 Vref+/AN3/RA3, 3 T0CKL/AN4/RA4, 4 Vpp/~{{MCLR}/RA5}, 5 VSS, 6 RB0/INT, 7 RB1/SDI/SDA, 8 RB2/SDO/CCP1, 9 RB3/CCP1/PGM, 10 RB4/SCK/SCL, 11 RB5/~{{SS}}, 12 RB6/T1OSO/T1CKI/PGC, 13 RB7/T1OSI/PGD, 14 VDD, 15 CLKO/OSC2/RA6, 16 CLKI/OSC1/RA7, 17 AN0/RA0, 18 AN1/RA1

## PIC16F818-ISO
designator *  value PIC16F818-ISO  Reference: U
ki_keywords: Flash-Based 8-Bit Microcontroller nanoWatt; ki_description: PIC16F818, 1792B Flash, 128B SRAM, 128B EEPROM, ADC, SOIC18; ki_fp_filters: SO*; Datasheet: http://ww1.microchip.com/downloads/en/DeviceDoc/39598F.pdf
pins: 1 Vref-/AN2/RA2, 2 Vref+/AN3/RA3, 3 T0CKL/AN4/RA4, 4 Vpp/~{{MCLR}/RA5}, 5 VSS, 6 RB0/INT, 7 RB1/SDI/SDA, 8 RB2/SDO/CCP1, 9 RB3/CCP1/PGM, 10 RB4/SCK/SCL, 11 RB5/~{{SS}}, 12 RB6/T1OSO/T1CKI/PGC, 13 RB7/T1OSI/PGD, 14 VDD, 15 CLKO/OSC2/RA6, 16 CLKI/OSC1/RA7, 17 AN0/RA0, 18 AN1/RA1

## PIC16F818-ISS
designator *  value PIC16F818-ISS  Reference: U
ki_keywords: Flash-Based 8-Bit Microcontroller nanoWatt; ki_description: PIC16F818, 1792B Flash, 128B SRAM, 128B EEPROM, ADC, SSSOP20; ki_fp_filters: SSOP*; Datasheet: http://ww1.microchip.com/downloads/en/DeviceDoc/39598F.pdf
pins: 1 Vref-/AN2/RA2, 2 Vref+/AN3/RA3, 3 T0CKL/AN4/RA4, 4 Vpp/~{{MCLR}/RA5}, 5 VSS, 6 VSS, 7 RB0/INT, 8 RB1/SDI/SDA, 9 RB2/SDO/CCP1, 10 RB3/CCP1/PGM, 11 RB4/SCK/SCL, 12 RB5/~{{SS}}, 13 RB6/T1OSO/T1CKI/PGC, 14 RB7/T1OSI/PGD, 15 VDD, 16 VDD, 17 CLKO/OSC2/RA6, 18 CLKI/OSC1/RA7, 19 AN0/RA0, 20 AN1/RA1

## PIC16F819-IML
designator *  value PIC16F819-IML  Reference: U
ki_keywords: Flash-Based 8-Bit Microcontroller nanoWatt; ki_description: PIC16F819, 3584B Flash, 256B SRAM, 256B EEPROM, ADC, QFN28; ki_fp_filters: QFN*; Datasheet: http://ww1.microchip.com/downloads/en/DeviceDoc/39598F.pdf
pins: 1 Vpp/~{{MCLR}/RA5}, 3 VSS, 5 VSS, 7 RB0/INT, 8 RB1/SDI/SDA, 9 RB2/SDO/CCP1, 10 RB3/CCP1/PGM, 12 RB4/SCK/SCL, 13 RB5/~{{SS}}, 15 RB6/T1OSO/T1CKI/PGC, 16 RB7/T1OSI/PGD, 17 VDD, 19 VDD, 20 CLKO/OSC2/RA6, 21 CLKI/OSC1/RA7, 23 AN0/RA0, 24 AN1/RA1, 26 Vref-/AN2/RA2, 27 Vref+/AN3/RA3, 28 T0CKL/AN4/RA4

## PIC16F819-IP
designator *  value PIC16F819-IP  Reference: U
ki_keywords: Flash-Based 8-Bit Microcontroller nanoWatt; ki_description: 3584B Flash, 256B SRAM, 256B EEPROM, ADC, DIP18; ki_fp_filters: DIP* PDIP*; Datasheet: http://ww1.microchip.com/downloads/en/DeviceDoc/39598F.pdf
pins: 1 Vref-/AN2/RA2, 2 Vref+/AN3/RA3, 3 T0CKL/AN4/RA4, 4 Vpp/~{{MCLR}/RA5}, 5 VSS, 6 RB0/INT, 7 RB1/SDI/SDA, 8 RB2/SDO/CCP1, 9 RB3/CCP1/PGM, 10 RB4/SCK/SCL, 11 RB5/~{{SS}}, 12 RB6/T1OSO/T1CKI/PGC, 13 RB7/T1OSI/PGD, 14 VDD, 15 CLKO/OSC2/RA6, 16 CLKI/OSC1/RA7, 17 AN0/RA0, 18 AN1/RA1

## PIC16F819-ISO
designator *  value PIC16F819-ISO  Reference: U
ki_keywords: Flash-Based 8-Bit Microcontroller nanoWatt; ki_description: PIC16F819, 3584B Flash, 256B SRAM, 256B EEPROM, ADC, SOIC18; ki_fp_filters: SO*; Datasheet: http://ww1.microchip.com/downloads/en/DeviceDoc/39598F.pdf
pins: 1 Vref-/AN2/RA2, 2 Vref+/AN3/RA3, 3 T0CKL/AN4/RA4, 4 Vpp/~{{MCLR}/RA5}, 5 VSS, 6 RB0/INT, 7 RB1/SDI/SDA, 8 RB2/SDO/CCP1, 9 RB3/CCP1/PGM, 10 RB4/SCK/SCL, 11 RB5/~{{SS}}, 12 RB6/T1OSO/T1CKI/PGC, 13 RB7/T1OSI/PGD, 14 VDD, 15 CLKO/OSC2/RA6, 16 CLKI/OSC1/RA7, 17 AN0/RA0, 18 AN1/RA1

## PIC16F819-ISS
designator *  value PIC16F819-ISS  Reference: U
ki_keywords: Flash-Based 8-Bit Microcontroller nanoWatt; ki_description: PIC16F819, 3584B Flash, 256B SRAM, 256B EEPROM, ADC, SSSOP20; ki_fp_filters: SSOP*; Datasheet: http://ww1.microchip.com/downloads/en/DeviceDoc/39598F.pdf
pins: 1 Vref-/AN2/RA2, 2 Vref+/AN3/RA3, 3 T0CKL/AN4/RA4, 4 Vpp/~{{MCLR}/RA5}, 5 VSS, 6 VSS, 7 RB0/INT, 8 RB1/SDI/SDA, 9 RB2/SDO/CCP1, 10 RB3/CCP1/PGM, 11 RB4/SCK/SCL, 12 RB5/~{{SS}}, 13 RB6/T1OSO/T1CKI/PGC, 14 RB7/T1OSI/PGD, 15 VDD, 16 VDD, 17 CLKO/OSC2/RA6, 18 CLKI/OSC1/RA7, 19 AN0/RA0, 20 AN1/RA1

## PIC16F870-ISO
designator *  value PIC16F870-ISO  Reference: U
ki_keywords: Flash-Based 8-Bit CMOS Microcontroller; ki_description: PIC16F870, 2K Flash, 128B SRAM, 64B EEPROM, SOIC28; ki_fp_filters: SO*; Datasheet: http://ww1.microchip.com/downloads/en/DeviceDoc/30569b.pdf
pins: 1 ~{{MCLR}/Vpp/THV}, 2 AN0/RA0, 3 AN1/RA1, 4 Vref-/AN2/RA2, 5 Vref+/AN3/RA3, 6 T0CKI/RA4, 7 AN4/RA5, 8 VSS, 9 OSC1/CLKIN, 10 OSC2/CLKOUT, 11 RC0/T10S0/T1CKI, 12 RC1/T1OSI, 13 RC2/CCP1, 14 RC3, 15 RC4, 16 RC5, 17 RC6/TX/CK, 18 RC7/RX/DT, 19 VSS, 20 VDD, 21 INT/RB0, 22 RB1, 23 RB2, 24 PGM/RB3, 25 RB4, 26 RB5, 27 PGC/RB6, 28 PGD/RB7

## PIC16F870-ISP
designator *  value PIC16F870-ISP  Reference: U
ki_keywords: Flash-Based 8-Bit CMOS Microcontroller; ki_description: PIC16F870, 2K Flash, 128B SRAM, 64B EEPROM, DIP28; ki_fp_filters: DIP* PDIP*; Datasheet: http://ww1.microchip.com/downloads/en/DeviceDoc/30569b.pdf
pins: 1 ~{{MCLR}/Vpp/THV}, 2 AN0/RA0, 3 AN1/RA1, 4 Vref-/AN2/RA2, 5 Vref+/AN3/RA3, 6 T0CKI/RA4, 7 AN4/RA5, 8 VSS, 9 OSC1/CLKIN, 10 OSC2/CLKOUT, 11 RC0/T10S0/T1CKI, 12 RC1/T1OSI, 13 RC2/CCP1, 14 RC3, 15 RC4, 16 RC5, 17 RC6/TX/CK, 18 RC7/RX/DT, 19 VSS, 20 VDD, 21 INT/RB0, 22 RB1, 23 RB2, 24 PGM/RB3, 25 RB4, 26 RB5, 27 PGC/RB6, 28 PGD/RB7

## PIC16F870-ISS
designator *  value PIC16F870-ISS  Reference: U
ki_keywords: Flash-Based 8-Bit CMOS Microcontroller; ki_description: PIC16F870, 2K Flash, 128B SRAM, 64B EEPROM, SSOP28; ki_fp_filters: SSOP*; Datasheet: http://ww1.microchip.com/downloads/en/DeviceDoc/30569b.pdf
pins: 1 ~{{MCLR}/Vpp/THV}, 2 AN0/RA0, 3 AN1/RA1, 4 Vref-/AN2/RA2, 5 Vref+/AN3/RA3, 6 T0CKI/RA4, 7 AN4/RA5, 8 VSS, 9 OSC1/CLKIN, 10 OSC2/CLKOUT, 11 RC0/T10S0/T1CKI, 12 RC1/T1OSI, 13 RC2/CCP1, 14 RC3, 15 RC4, 16 RC5, 17 RC6/TX/CK, 18 RC7/RX/DT, 19 VSS, 20 VDD, 21 INT/RB0, 22 RB1, 23 RB2, 24 PGM/RB3, 25 RB4, 26 RB5, 27 PGC/RB6, 28 PGD/RB7

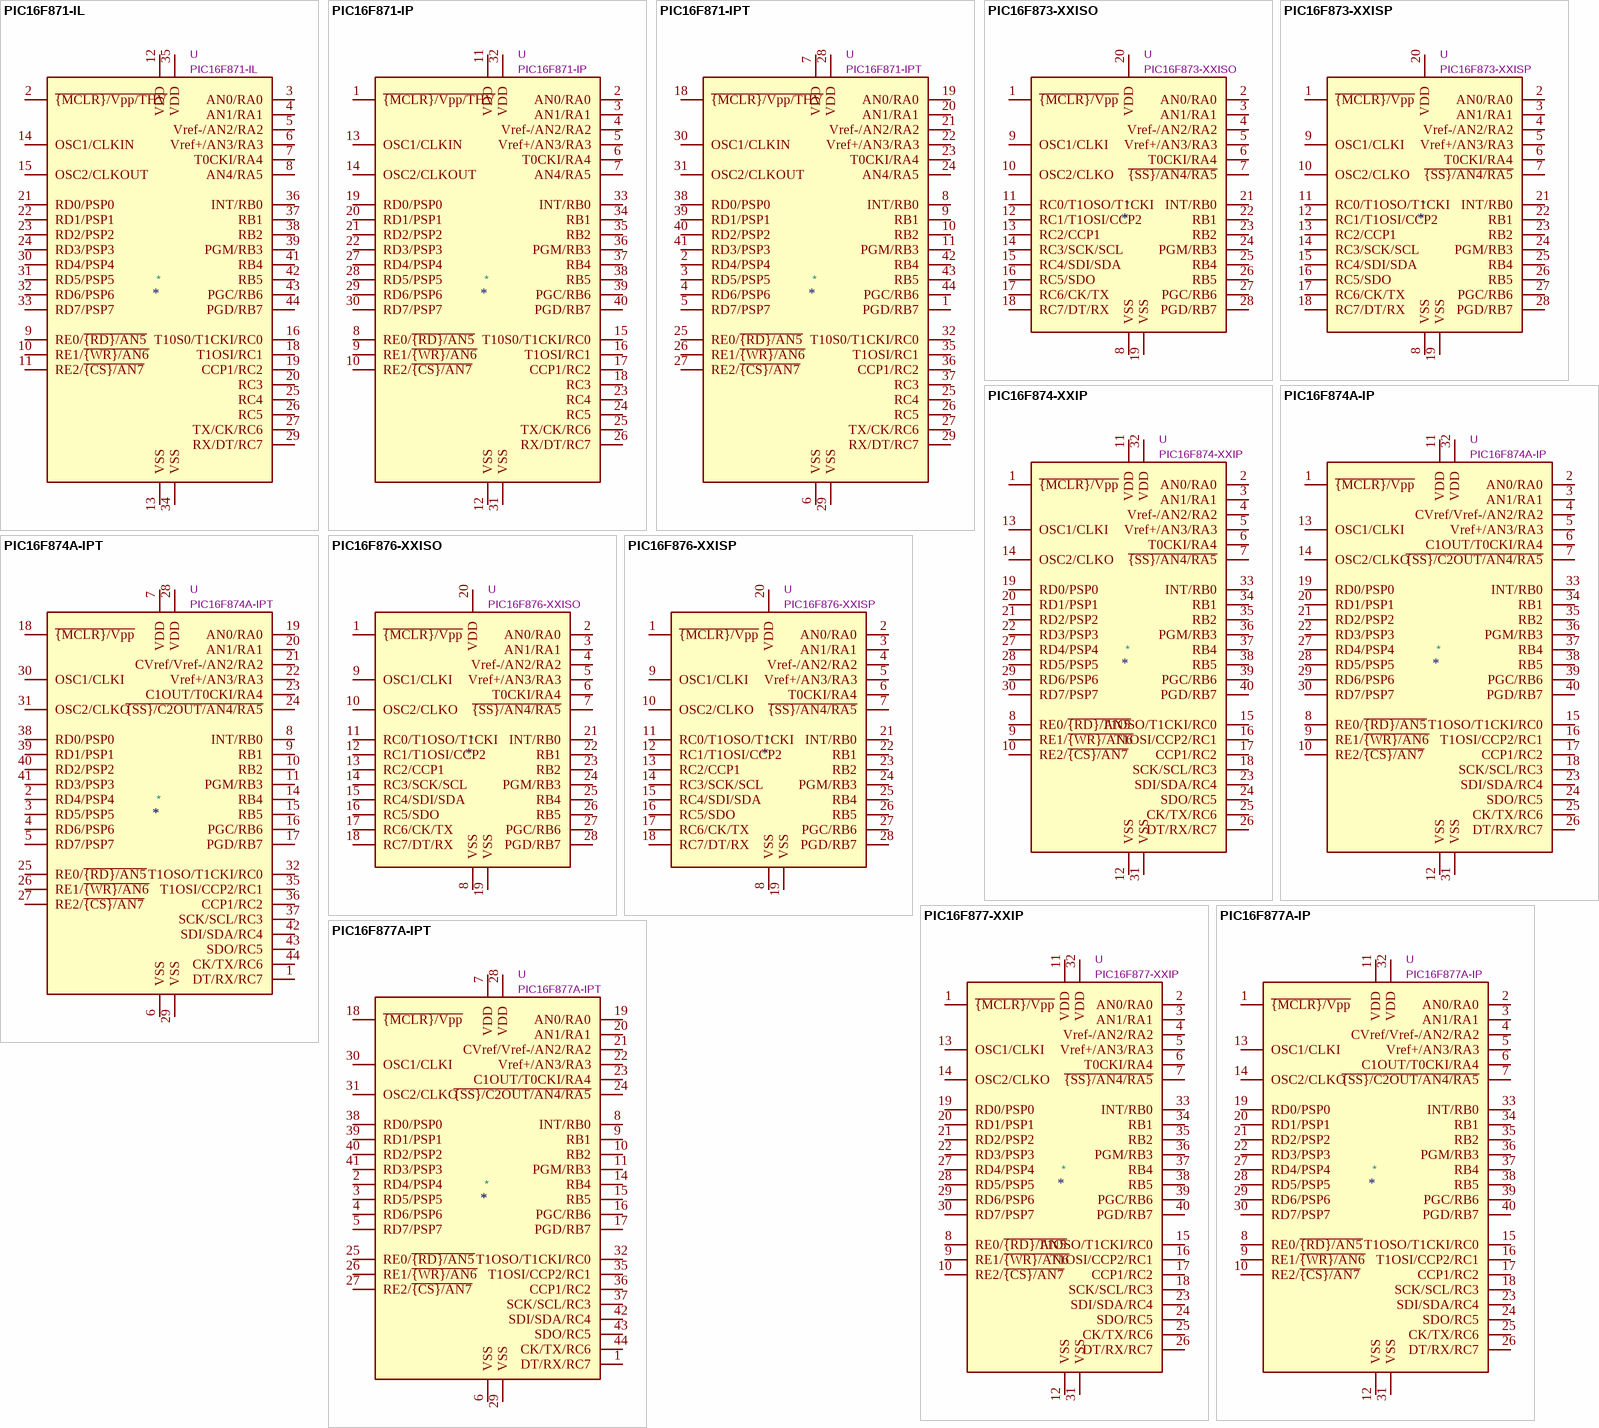
[diagram p5: symbols PIC16F871-IL to PIC16F877A-IPT]

## PIC16F871-IL
designator *  value PIC16F871-IL  Reference: U
ki_keywords: Flash-Based 8-Bit CMOS Microcontroller; ki_description: 2K Flash, 128B SRAM, 64B EEPROM, PLCC44; ki_fp_filters: PLCC*; Datasheet: http://ww1.microchip.com/downloads/en/DeviceDoc/30569b.pdf
pins: 2 ~{{MCLR}/Vpp/THV}, 3 AN0/RA0, 4 AN1/RA1, 5 Vref-/AN2/RA2, 6 Vref+/AN3/RA3, 7 T0CKI/RA4, 8 AN4/RA5, 9 RE0/~{{RD}/AN5}, 10 RE1/~{{WR}/AN6}, 11 RE2/~{{CS}/AN7}, 12 VDD, 13 VSS, 14 OSC1/CLKIN, 15 OSC2/CLKOUT, 16 T10S0/T1CKI/RC0, 18 T1OSI/RC1, 19 CCP1/RC2, 20 RC3, 21 RD0/PSP0, 22 RD1/PSP1, 23 RD2/PSP2, 24 RD3/PSP3, 25 RC4, 26 RC5, 27 TX/CK/RC6, 29 RX/DT/RC7, 30 RD4/PSP4, 31 RD5/PSP5, 32 RD6/PSP6, 33 RD7/PSP7, 34 VSS, 35 VDD, 36 INT/RB0, 37 RB1, 38 RB2, 39 PGM/RB3, 41 RB4, 42 RB5, 43 PGC/RB6, 44 PGD/RB7

## PIC16F871-IP
designator *  value PIC16F871-IP  Reference: U
ki_keywords: Flash-Based 8-Bit CMOS Microcontroller; ki_description: 2K Flash, 128B SRAM, 64B EEPROM, DIP40; ki_fp_filters: DIP* PDIP*; Datasheet: http://ww1.microchip.com/downloads/en/DeviceDoc/30569b.pdf
pins: 1 ~{{MCLR}/Vpp/THV}, 2 AN0/RA0, 3 AN1/RA1, 4 Vref-/AN2/RA2, 5 Vref+/AN3/RA3, 6 T0CKI/RA4, 7 AN4/RA5, 8 RE0/~{{RD}/AN5}, 9 RE1/~{{WR}/AN6}, 10 RE2/~{{CS}/AN7}, 11 VDD, 12 VSS, 13 OSC1/CLKIN, 14 OSC2/CLKOUT, 15 T10S0/T1CKI/RC0, 16 T1OSI/RC1, 17 CCP1/RC2, 18 RC3, 19 RD0/PSP0, 20 RD1/PSP1, 21 RD2/PSP2, 22 RD3/PSP3, 23 RC4, 24 RC5, 25 TX/CK/RC6, 26 RX/DT/RC7, 27 RD4/PSP4, 28 RD5/PSP5, 29 RD6/PSP6, 30 RD7/PSP7, 31 VSS, 32 VDD, 33 INT/RB0, 34 RB1, 35 RB2, 36 PGM/RB3, 37 RB4, 38 RB5, 39 PGC/RB6, 40 PGD/RB7

## PIC16F871-IPT
designator *  value PIC16F871-IPT  Reference: U
ki_keywords: Flash-Based 8-Bit CMOS Microcontroller; ki_description: PIC16F871, 2K Flash, 128B SRAM, 64B EEPROM, TQFP44; ki_fp_filters: TQFP*; Datasheet: http://ww1.microchip.com/downloads/en/DeviceDoc/30569b.pdf
pins: 1 PGD/RB7, 2 RD4/PSP4, 3 RD5/PSP5, 4 RD6/PSP6, 5 RD7/PSP7, 6 VSS, 7 VDD, 8 INT/RB0, 9 RB1, 10 RB2, 11 PGM/RB3, 18 ~{{MCLR}/Vpp/THV}, 19 AN0/RA0, 20 AN1/RA1, 21 Vref-/AN2/RA2, 22 Vref+/AN3/RA3, 23 T0CKI/RA4, 24 AN4/RA5, 25 RC4, 25 RE0/~{{RD}/AN5}, 26 RE1/~{{WR}/AN6}, 26 RC5, 27 TX/CK/RC6, 27 RE2/~{{CS}/AN7}, 28 VDD, 29 VSS, 29 RX/DT/RC7, 30 OSC1/CLKIN, 31 OSC2/CLKOUT, 32 T10S0/T1CKI/RC0, 35 T1OSI/RC1, 36 CCP1/RC2, 37 RC3, 38 RD0/PSP0, 39 RD1/PSP1, 40 RD2/PSP2, 41 RD3/PSP3, 42 RB4, 43 RB5, 44 PGC/RB6